# Altium schematic symbol library MyComponents_v2.5.SchLib: 259 symbols (part 2 of 3)
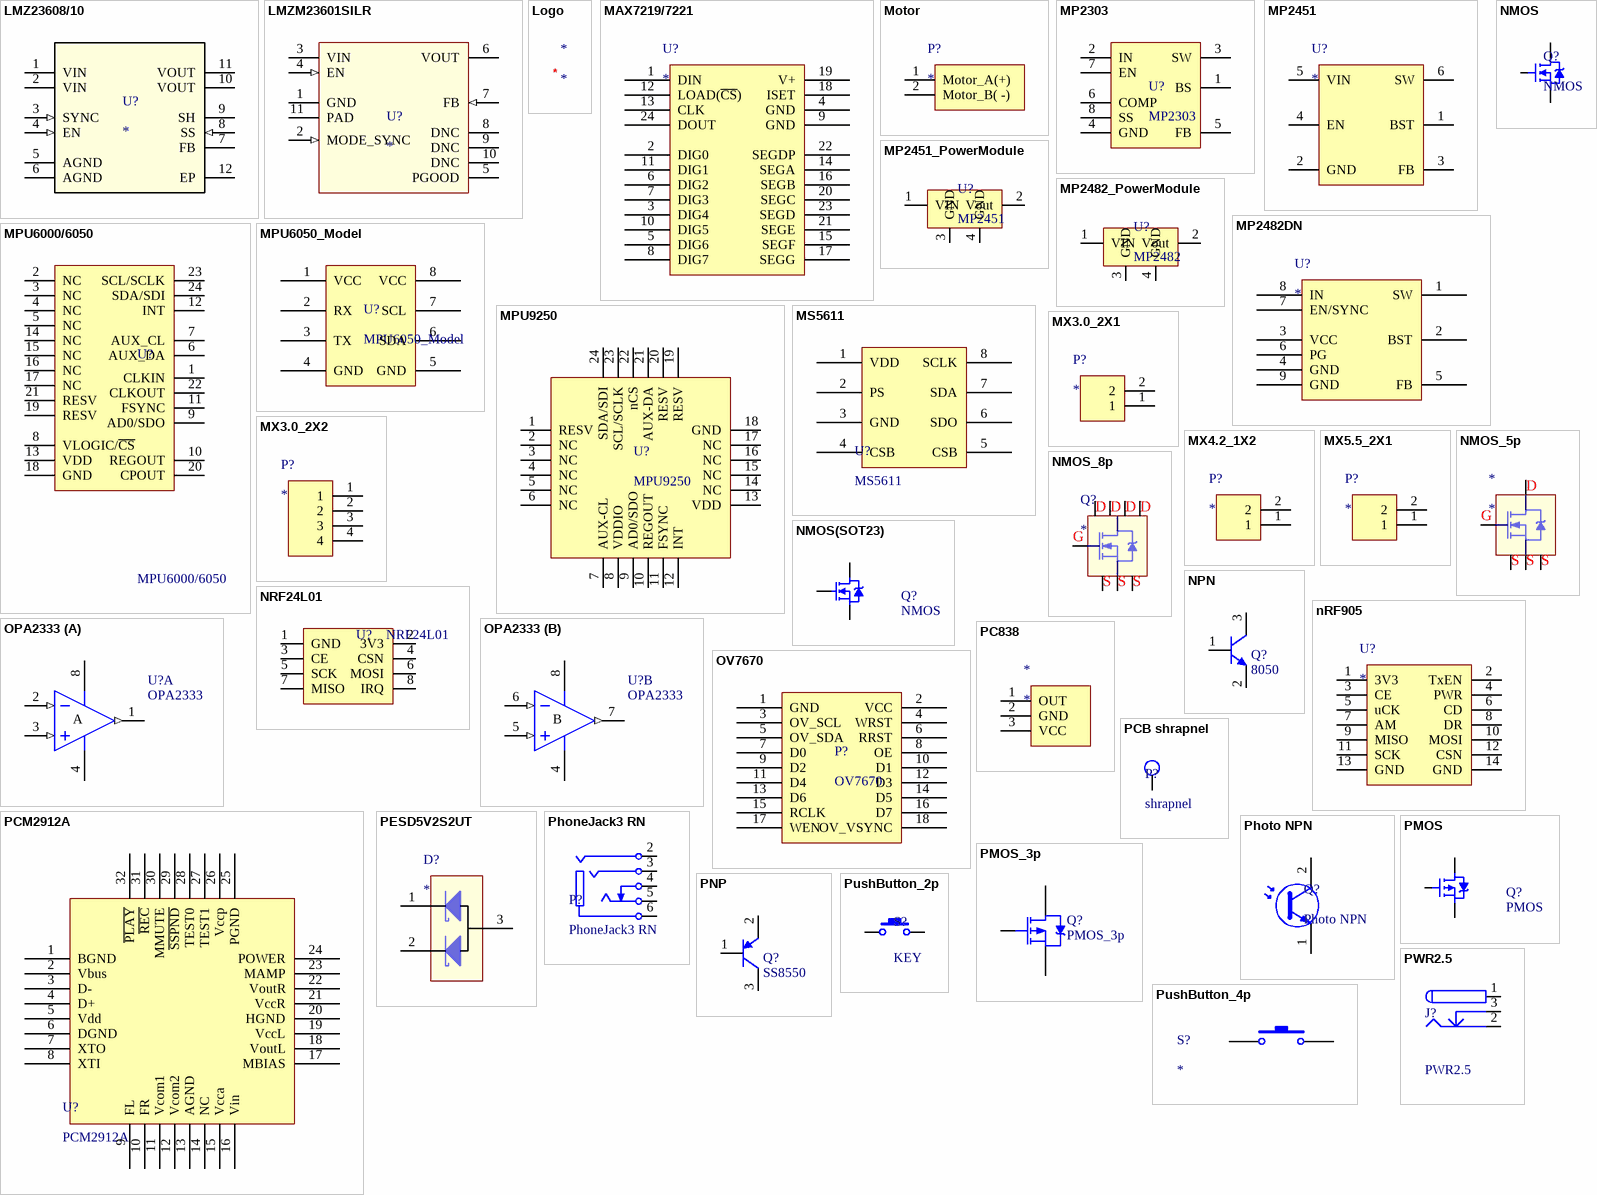
[diagram p14: symbols LMZ23608/10 to PWR2.5]

## PESD5V2S2UT
designator D?
Double ESD protection diodes
footprint SOT-23R
pins: 1, 2, 3

## PhoneJack3 RN
designator P?
footprint PJ-327D
pins: 2, 3, 4, 5, 6

## Photo NPN
designator Q?
footprint Photo NPN (Photo NPN for 测评测速模块)
footprint 5mm_Receiver
pins: 1 E, 2 C

## PMOS
designator Q?
P-Channel Power MOSFET; Note: Pin 4 not drawn and electrically connected to Pin 2.; Published: 8-Jun-2000; LatestRevisionDate: 17-Jul-2002; LatestRevisionNote: Re-released for DXP Platform.; DatasheetVersion: PD-9.390D; PackageVersion: Feb-1997; PackageReference: TO-220AB; Publisher: Altium Limited; PackageDescription: TO, Thru-Hole, Vertical, Heatsink Mounted; 3 In-Line Leads; Pitch 2.54 mm; ComponentLink1Description: Manufacturer Link; ComponentLink1URL: http://www.irf.com/
footprint TO-220AB (Footprint not found)
simulation model IRF9510 (Spice Subcircuit)
footprint SON5X6 (5x6mm MOS)
footprint SON3x3
pins: 1 S, 2 S, 3 S, 4 G, 5 D, 6 D, 7 D, 8 D, 9 D

## PMOS_3p
designator Q?
P-Channel Power MOSFET; Note: Pin 4 not drawn and electrically connected to Pin 2.; Published: 8-Jun-2000; LatestRevisionDate: 17-Jul-2002; LatestRevisionNote: Re-released for DXP Platform.; DatasheetVersion: PD-9.390D; PackageVersion: Feb-1997; PackageReference: TO-220AB; Publisher: Altium Limited; PackageDescription: TO, Thru-Hole, Vertical, Heatsink Mounted; 3 In-Line Leads; Pitch 2.54 mm; ComponentLink1Description: Manufacturer Link; ComponentLink1URL: http://www.irf.com/
footprint TO-220AB (Footprint not found)
simulation model IRF9510 (Spice Subcircuit)
pins: D, G, S

## PNP
designator Q?, comment SS8550
PNP Bipolar Transistor; Published: 8-Jun-2000; LatestRevisionDate: 17-Jul-2002; LatestRevisionNote: Re-released for DXP Platform.; PackageReference: TO-226-AA; Publisher: Altium Limited; PackageDescription: TO, Flat Index; 3 In-Line, Axial Leads; Body Dia. 4.8mm; Leads 0.55 x 0.51 mm (max); Code_JEDEC: TO-226-AA
simulation model NPN
signal-integrity model NPN
footprint SOT-23-3
footprint SOT-323
pins: 1 B, 2 E, 3 C

## PushButton_2p
designator S?, comment KEY
Button; Published: 24-Mar-1999; LatestRevisionDate: 17-Jul-2002; LatestRevisionNote: Re-released for DXP Platform.; PackageReference: SPST-2; Publisher: Altium Limited; PackageDescription: Switch; 2 Leads
footprint SW-3x6mm-SMT (两脚贴片轻触开关3x6mm)
footprint SW 3mmx4mm (小龟按键)
pins: 1, 2

## PushButton_4p
designator S?
footprint SW-4.5x4.5mm-SMT (四脚贴片轻触开关4.5x4.5mm)
footprint SW-6x6mm (四脚按键6x6mm)
pins: 1, 2, 3 hidden, 4 hidden

## PWR2.5
designator J?
Low Voltage Power Supply Connector; Published: 17-Dec-2003; DatasheetDocument: 09-May-2002; Publisher: Altium Limited; ComponentLink1Description: Manufacturer Link; ComponentLink1URL: http://domino.kycon.com/internet/Products.html
signal-integrity model Connector
footprint DC-JACK (DC Power Jack, 5.5mm-2.1mm)
footprint DC2.5-5 (DC Power Jack, 2.5mm, KLD Series, PCB Mount)
pins: 1 (power), 2 (power), 3 (power)

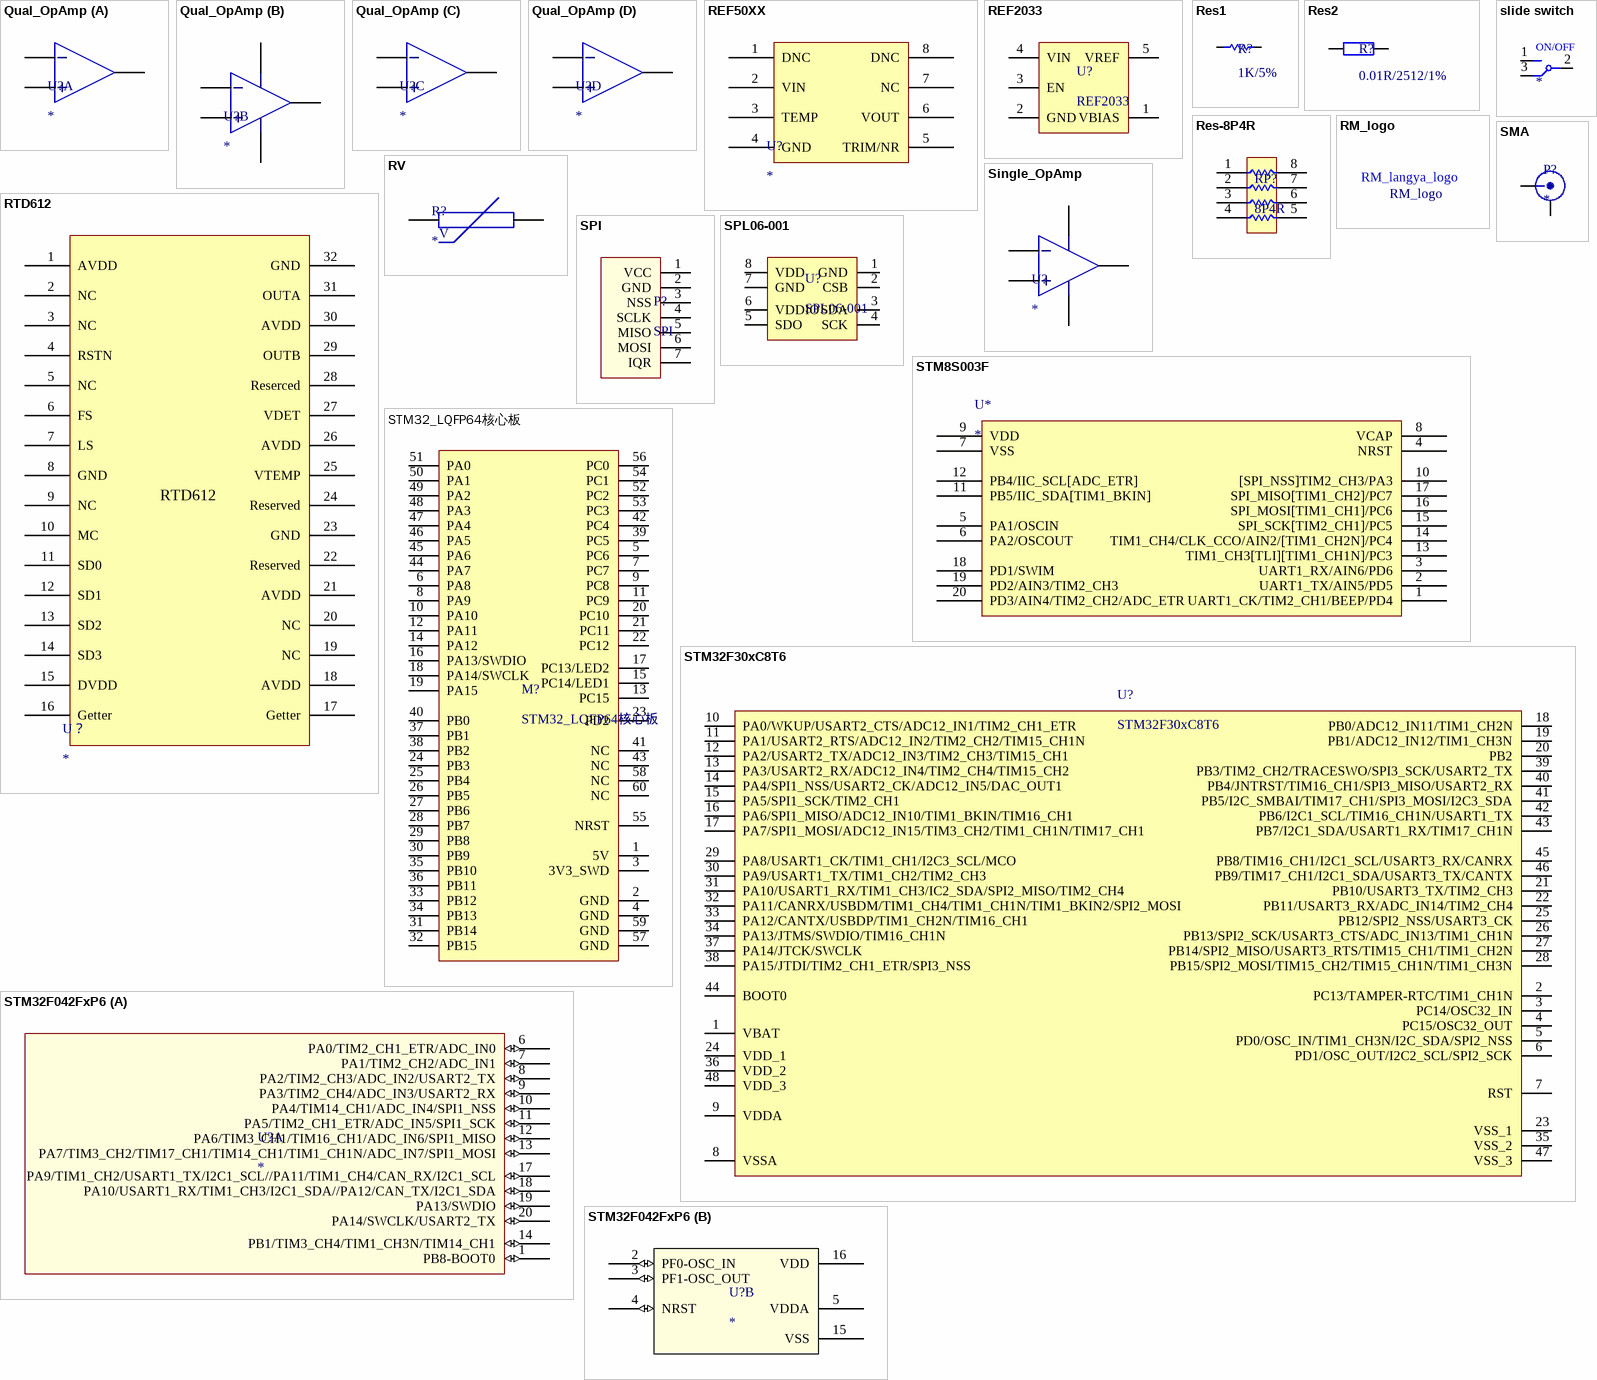
[diagram p7: symbols Qual_OpAmp to STM32F042FxP6]

## Qual_OpAmp
designator U?
footprint D14_NoThermal (SOIC, 14-Leads, Body 8.65x3.90mm, Pitch 1.27mm, IPC Medium Density)
part A pins: 1 OUTA, 2 IN-A, 3 IN+A
part B pins: 4 V+, 5 IN+B, 6 IN-B, 7 OUTB, 11 V-
part C pins: 8 OUTC, 9 IN-C, 10 IN+C
part D pins: 12 IN+D, 13 IN-D, 14 OUTD

## REF50XX
designator U?
footprint D8_NoThermal (SOIC, 8-Leads, Body 4.90x3.90mm, Pitch 1.27mm, IPC Medium Density)
footprint DGK8_NoThermal (TSOP, 8-Leads, Body 3.00x3.00mm, Pitch 0.65mm, IPC Medium Density)
pins: 1 DNC, 2 VIN, 3 TEMP, 4 GND, 5 TRIM/NR, 6 VOUT, 7 NC, 8 DNC

## REF2033
designator U?
Voltage Reference
footprint DIP&SOT-23-5 (DIP; 5Leads; Row Spacing 7.62 mm; Pitch 2.54 mm)
footprint SOT-23-5 L
pins: 1 VBIAS, 2 GND, 3 EN, 4 VIN, 5 VREF

## Res1
designator R?, comment 1K/5%
Resistor; Value: 1K; Published: 8-Jun-2000; LatestRevisionDate: 17-Jul-2002; LatestRevisionNote: Re-released for DXP Platform.; PackageReference: AXIAL-0.3; Publisher: Altium Limited; PackageDescription: Axial Device, Thru-Hole; 2 Leads; 0.3 in Pin Spacing
simulation model RESISTOR (Resistor)
signal-integrity model Res
footprint 0603R
footprint 0402R
footprint 0805
footprint 1206
pins: 1, 2

## Res2
designator R?, comment 0.01R/2512/1%
Resistor; Value: 1K; Published: 8-Jun-2000; LatestRevisionDate: 17-Jul-2002; LatestRevisionNote: Re-released for DXP Platform.; PackageReference: AXIAL-0.4; Publisher: Altium Limited; PackageDescription: Axial Device, Thru-Hole; 2 Leads; 0.4 in Pin Spacing
simulation model RESISTOR (Resistor)
signal-integrity model Res
footprint 2512 (采样电阻)
pins: 1, 2

## Res-8P4R
designator RP?, comment 8P4R
footprint RES-8P4R-0603 (Chip Array, Flat, 8-Leads, Pitch 0.80mm,  Body 3.20x1.60mm,  IPC Medium Density)
footprint RES-8P4R-0402
pins: 1, 2, 3, 4, 5, 6, 7, 8

## RM_logo
designator ?
footprint RM_logo 300mil*350 (300mil*350mil)
footprint RM_logo
footprint Logo_LangYa
footprint RM_logo 560mil*460 (560mil*460mil)
text: RM_langya_logo

## RTD612
designator U？
LWIR imaging sensor
footprint RTD612 (LWIR Imaging Sensor)
pins: 1 AVDD, 2 NC, 3 NC, 4 RSTN, 5 NC, 6 FS, 7 LS, 8 GND, 9 NC, 10 MC, 11 SD0, 12 SD1, 13 SD2, 14 SD3, 15 DVDD, 16 Getter, 17 Getter, 18 AVDD, 19 NC, 20 NC, 21 AVDD, 22 Reserved, 23 GND, 24 Reserved, 25 VTEMP, 26 AVDD, 27 VDET, 28 Reserced, 29 OUTB, 30 AVDD, 31 OUTA, 32 GND

## RV
designator R?
footprint RV_200mil
pins: 1, 2
text: V

## Single_OpAmp
designator U?
footprint D8_NoThermal (SOIC, 8-Leads, Body 4.90x3.90mm, Pitch 1.27mm, IPC Medium Density)
footprint DGK8_NoThermal (TSOP, 8-Leads, Body 3.00x3.00mm, Pitch 0.65mm, IPC Medium Density)
pins: 1 NC hidden, 2 IN-, 3 IN+, 4 V-, 5 BC hidden, 6 OUT, 7 V+, 8 NC hidden

## slide switch
designator S?
footprint Slide Switch
footprint MSK12D19
pins: 1 NX (oc), 2 COM (oc), 3 NC (oc)
text: ON/OFF

## SMA
designator P?
footprint SMB_V-RJ45 (Connector; SMB Straight)
footprint SMA_Connector
pins: 1, 2

## SPI
designator P?
footprint HY2.00mm7x1
footprint A1.25WF-7P
footprint GH1.25-7P-卧贴
pins: 1 VCC, 2 GND, 3 NSS, 4 SCLK, 5 MISO, 6 MOSI, 7 IQR

## SPL06-001
designator U?
footprint LGA8_SPL06 (IST8310)
pins: 1 GND, 2 CSB, 3 SDA, 4 SCK, 5 SDO, 6 VDDIO, 7 GND, 8 VDD

## STM8S003F
designator U*
footprint TSSOP65P640X120-20N(STM8S103F) (TSOP, 20-Leads, Body 6.6x4.5mm (max), Pitch 0.65mm, IPC Medium Density)
pins: 1 UART1_CK/TIM2_CH1/BEEP/PD4 "PD4", 2 UART1_TX/AIN5/PD5 "PD5", 3 UART1_RX/AIN6/PD6, 4 NRST, 5 PA1/OSCIN, 6 PA2/OSCOUT, 7 VSS, 8 VCAP, 9 VDD, 10 [SPI_NSS]TIM2_CH3/PA3, 11 PB5/IIC_SDA[TIM1_BKIN], 12 PB4/IIC_SCL[ADC_ETR], 13 TIM1_CH3[TLI][TIM1_CH1N]/PC3, 14 TIM1_CH4/CLK_CCO/AIN2/[TIM1_CH2N]/PC4, 15 SPI_SCK[TIM2_CH1]/PC5, 16 SPI_MOSI[TIM1_CH1]/PC6, 17 SPI_MISO[TIM1_CH2]/PC7, 18 PD1/SWIM, 19 PD2/AIN3/TIM2_CH3, 20 PD3/AIN4/TIM2_CH2/ADC_ETR

## STM32_LQFP64核心板
designator M?
STM32_LQFP64核心板 / 兼容F105Rx、F405RGT6、F446Rx / 尺寸23mm x 25mm
footprint STM32_LQFP64核心板
pins: 1 5V, 2 GND, 3 3V3_SWD, 4 GND, 5 PC6, 6 PA8, 7 PC7, 8 PA9, 9 PC8, 10 PA10, 11 PC9, 12 PA11, 13 PC15, 14 PA12, 15 PC14/LED1, 16 PA13/SWDIO, 17 PC13/LED2, 18 PA14/SWCLK, 19 PA15, 20 PC10, 21 PC11, 22 PC12, 23 PD2, 24 PB3, 25 PB4, 26 PB5, 27 PB6, 28 PB7, 29 PB8, 30 PB9, 31 PB14, 32 PB15, 33 PB12, 34 PB13, 35 PB10, 36 PB11, 37 PB1, 38 PB2, 39 PC5, 40 PB0, 41 NC, 42 PC4, 43 NC, 44 PA7, 45 PA6, 46 PA5, 47 PA4, 48 PA3, 49 PA2, 50 PA1, 51 PA0, 52 PC2, 53 PC3, 54 PC1, 55 NRST, 56 PC0, 57 GND, 58 NC, 59 GND, 60 NC

## STM32F30xC8T6
designator U?
footprint LQFP_48 (TSQFP, 48-Leads, Body 7.00x7.00mm, Pitch 0.50mm, IPC Medium Density)
pins: 1 VBAT, 2 PC13/TAMPER-RTC/TIM1_CH1N, 3 PC14/OSC32_IN, 4 PC15/OSC32_OUT, 5 PD0/OSC_IN/TIM1_CH3N/I2C_SDA/SPI2_NSS, 6 PD1/OSC_OUT/I2C2_SCL/SPI2_SCK, 7 RST, 8 VSSA, 9 VDDA, 10 PA0/WKUP/USART2_CTS/ADC12_IN1/TIM2_CH1_ETR, 11 PA1/USART2_RTS/ADC12_IN2/TIM2_CH2/TIM15_CH1N, 12 PA2/USART2_TX/ADC12_IN3/TIM2_CH3/TIM15_CH1, 13 PA3/USART2_RX/ADC12_IN4/TIM2_CH4/TIM15_CH2, 14 PA4/SPI1_NSS/USART2_CK/ADC12_IN5/DAC_OUT1, 15 PA5/SPI1_SCK/TIM2_CH1, 16 PA6/SPI1_MISO/ADC12_IN10/TIM1_BKIN/TIM16_CH1, 17 PA7/SPI1_MOSI/ADC12_IN15/TIM3_CH2/TIM1_CH1N/TIM17_CH1, 18 PB0/ADC12_IN11/TIM1_CH2N, 19 PB1/ADC12_IN12/TIM1_CH3N, 20 PB2, 21 PB10/USART3_TX/TIM2_CH3, 22 PB11/USART3_RX/ADC_IN14/TIM2_CH4, 23 VSS_1, 24 VDD_1, 25 PB12/SPI2_NSS/USART3_CK, 26 PB13/SPI2_SCK/USART3_CTS/ADC_IN13/TIM1_CH1N, 27 PB14/SPI2_MISO/USART3_RTS/TIM15_CH1/TIM1_CH2N, 28 PB15/SPI2_MOSI/TIM15_CH2/TIM15_CH1N/TIM1_CH3N, 29 PA8/USART1_CK/TIM1_CH1/I2C3_SCL/MCO, 30 PA9/USART1_TX/TIM1_CH2/TIM2_CH3, 31 PA10/USART1_RX/TIM1_CH3/IC2_SDA/SPI2_MISO/TIM2_CH4, 32 PA11/CANRX/USBDM/TIM1_CH4/TIM1_CH1N/TIM1_BKIN2/SPI2_MOSI, 33 PA12/CANTX/USBDP/TIM1_CH2N/TIM16_CH1, 34 PA13/JTMS/SWDIO/TIM16_CH1N, 35 VSS_2, 36 VDD_2, 37 PA14/JTCK/SWCLK, 38 PA15/JTDI/TIM2_CH1_ETR/SPI3_NSS, 39 PB3/TIM2_CH2/TRACESWO/SPI3_SCK/USART2_TX, 40 PB4/JNTRST/TIM16_CH1/SPI3_MISO/USART2_RX, 41 PB5/I2C_SMBAI/TIM17_CH1/SPI3_MOSI/I2C3_SDA, 42 PB6/I2C1_SCL/TIM16_CH1N/USART1_TX, 43 PB7/I2C1_SDA/USART1_RX/TIM17_CH1N, 44 BOOT0, 45 PB8/TIM16_CH1/I2C1_SCL/USART3_RX/CANRX, 46 PB9/TIM17_CH1/I2C1_SDA/USART3_TX/CANTX, 47 VSS_3, 48 VDD_3

## STM32F042FxP6
designator U?
Imported; Manufacturer_Part_Number: stm32f042gxu; Vendor: STMicroelectronics; Built_By: EMA_UL_Team; C: Copyright (C) 2016 Accelerated Designs. All rights reserved; RefDes: RefDes; Type: Type; Value: Value
footprint TSSOP20
part A pins: 1 PB8-BOOT0 (io), 6 PA0/TIM2_CH1_ETR/ADC_IN0 (io), 7 PA1/TIM2_CH2/ADC_IN1 (io), 8 PA2/TIM2_CH3/ADC_IN2/USART2_TX (io), 9 PA3/TIM2_CH4/ADC_IN3/USART2_RX (io), 10 PA4/TIM14_CH1/ADC_IN4/SPI1_NSS (io), 11 PA5/TIM2_CH1_ETR/ADC_IN5/SPI1_SCK (io), 12 PA6/TIM3_CH1/TIM16_CH1/ADC_IN6/SPI1_MISO (io), 13 PA7/TIM3_CH2/TIM17_CH1/TIM14_CH1/TIM1_CH1N/ADC_IN7/SPI1_MOSI (io), 14 PB1/TIM3_CH4/TIM1_CH3N/TIM14_CH1 (io), 17 PA9/TIM1_CH2/USART1_TX/I2C1_SCL//PA11/TIM1_CH4/CAN_RX/I2C1_SCL (io), 18 PA10/USART1_RX/TIM1_CH3/I2C1_SDA//PA12/CAN_TX/I2C1_SDA (io), 19 PA13/SWDIO (io), 20 PA14/SWCLK/USART2_TX (io)
part B pins: 2 PF0-OSC_IN (io), 3 PF1-OSC_OUT (io), 4 NRST (io), 5 VDDA (power), 15 VSS (power), 16 VDD (power)

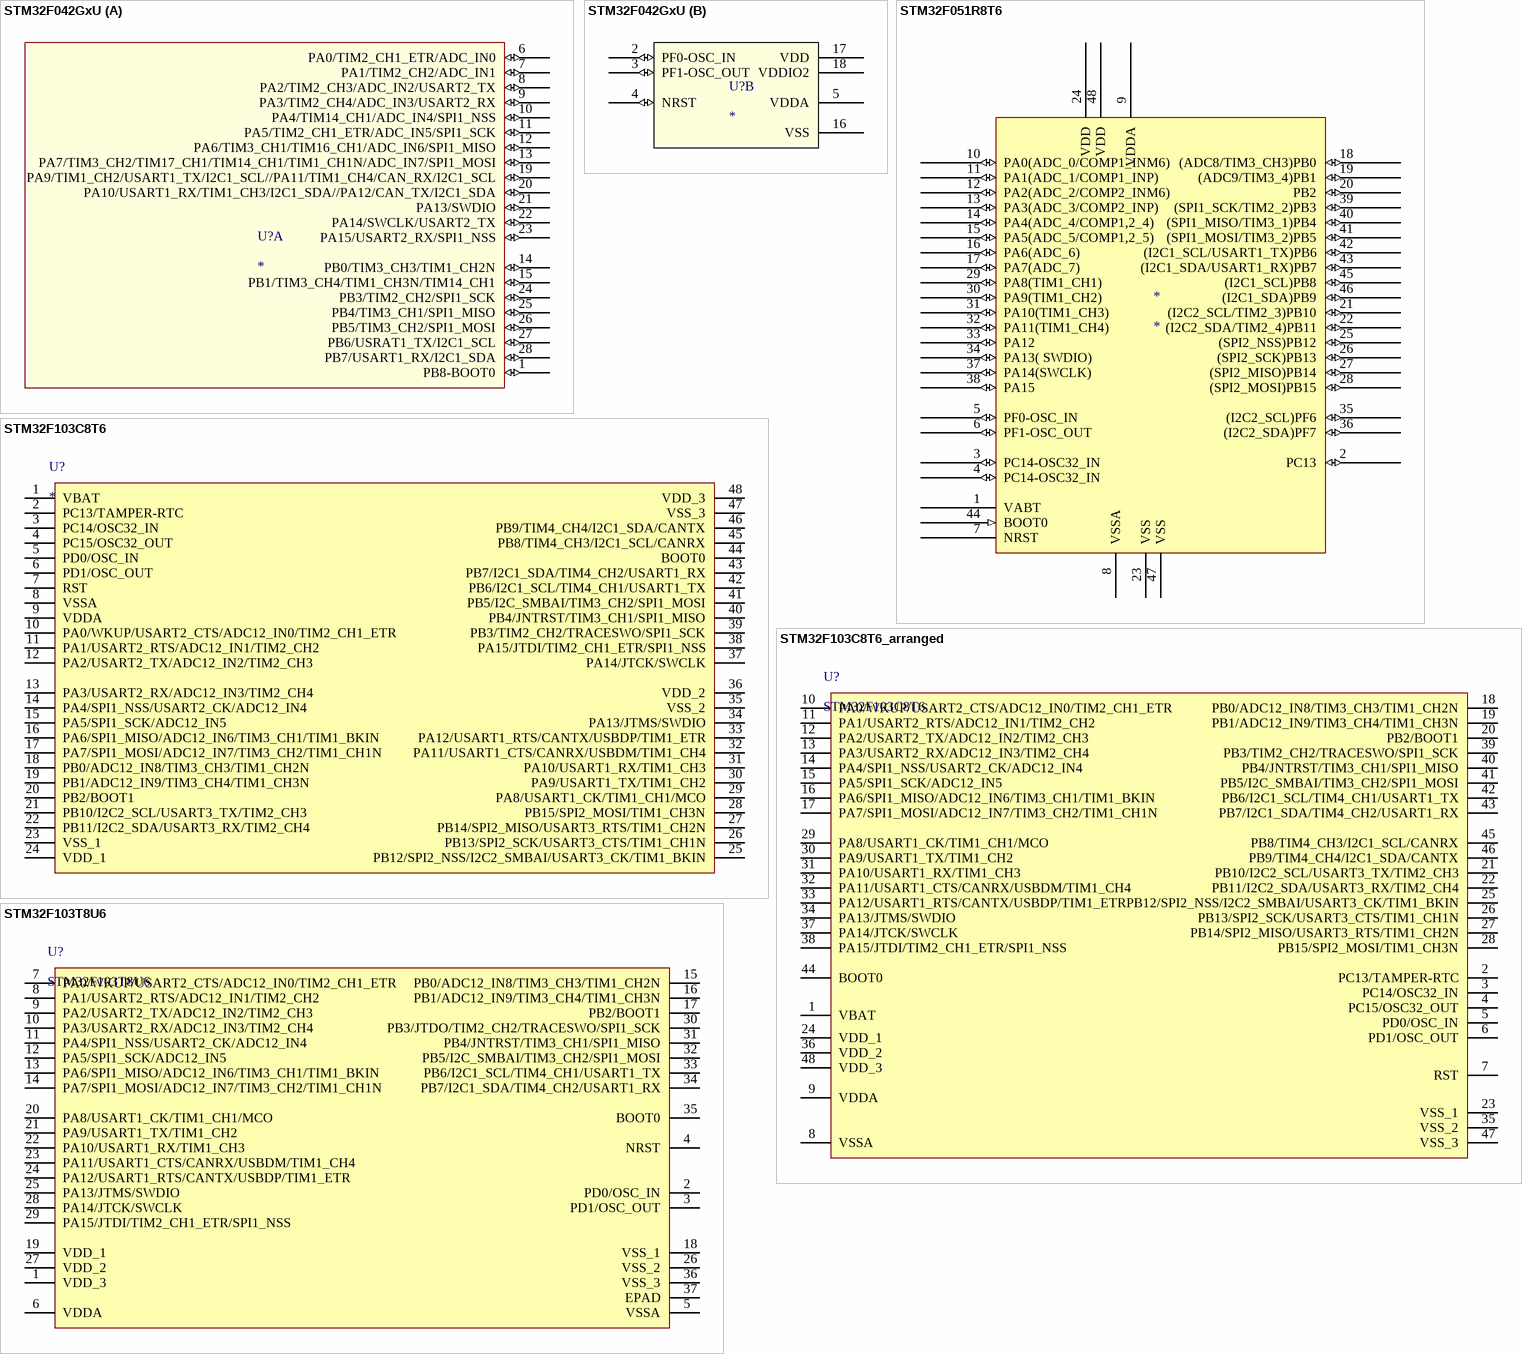
[diagram p8: symbols STM32F042GxU to STM32F103T8U6]

## STM32F042GxU
designator U?
Imported; Manufacturer_Part_Number: stm32f042gxu; Vendor: STMicroelectronics; Built_By: EMA_UL_Team; C: Copyright (C) 2016 Accelerated Designs. All rights reserved; RefDes: RefDes; Type: Type; Value: Value
footprint UFQFPN28-4x4mm-M
part A pins: 1 PB8-BOOT0 (io), 6 PA0/TIM2_CH1_ETR/ADC_IN0 (io), 7 PA1/TIM2_CH2/ADC_IN1 (io), 8 PA2/TIM2_CH3/ADC_IN2/USART2_TX (io), 9 PA3/TIM2_CH4/ADC_IN3/USART2_RX (io), 10 PA4/TIM14_CH1/ADC_IN4/SPI1_NSS (io), 11 PA5/TIM2_CH1_ETR/ADC_IN5/SPI1_SCK (io), 12 PA6/TIM3_CH1/TIM16_CH1/ADC_IN6/SPI1_MISO (io), 13 PA7/TIM3_CH2/TIM17_CH1/TIM14_CH1/TIM1_CH1N/ADC_IN7/SPI1_MOSI (io), 14 PB0/TIM3_CH3/TIM1_CH2N (io), 15 PB1/TIM3_CH4/TIM1_CH3N/TIM14_CH1 (io), 19 PA9/TIM1_CH2/USART1_TX/I2C1_SCL//PA11/TIM1_CH4/CAN_RX/I2C1_SCL (io), 20 PA10/USART1_RX/TIM1_CH3/I2C1_SDA//PA12/CAN_TX/I2C1_SDA (io), 21 PA13/SWDIO (io), 22 PA14/SWCLK/USART2_TX (io), 23 PA15/USART2_RX/SPI1_NSS (io), 24 PB3/TIM2_CH2/SPI1_SCK (io), 25 PB4/TIM3_CH1/SPI1_MISO (io), 26 PB5/TIM3_CH2/SPI1_MOSI (io), 27 PB6/USRAT1_TX/I2C1_SCL (io), 28 PB7/USART1_RX/I2C1_SDA (io)
part B pins: 2 PF0-OSC_IN (io), 3 PF1-OSC_OUT (io), 4 NRST (io), 5 VDDA (power), 16 VSS (power), 17 VDD (power), 18 VDDIO2 (power)

## STM32F051R8T6
designator *
pins: 1 VABT, 2 PC13 (io), 3 PC14-OSC32_IN (io), 4 PC14-OSC32_IN (io), 5 PF0-OSC_IN (io), 6 PF1-OSC_OUT (io), 7 NRST, 8 VSSA, 9 VDDA (power), 10 PA0(ADC_0/COMP1_INM6) (io), 11 PA1(ADC_1/COMP1_INP) (io), 12 PA2(ADC_2/COMP2_INM6) (io), 13 PA3(ADC_3/COMP2_INP) (io), 14 PA4(ADC_4/COMP1,2_4) (io), 15 PA5(ADC_5/COMP1,2_5) (io), 16 PA6(ADC_6) (io), 17 PA7(ADC_7) (io), 18 (ADC8/TIM3_CH3)PB0 (io), 19 (ADC9/TIM3_4)PB1 (io), 20 PB2 (io), 21 (I2C2_SCL/TIM2_3)PB10 (io), 22 (I2C2_SDA/TIM2_4)PB11 (io), 23 VSS (power), 24 VDD (power), 25 (SPI2_NSS)PB12 (io), 26 (SPI2_SCK)PB13 (io), 27 (SPI2_MISO)PB14 (io), 28 (SPI2_MOSI)PB15 (io), 29 PA8(TIM1_CH1) (io), 30 PA9(TIM1_CH2) (io), 31 PA10(TIM1_CH3) (io), 32 PA11(TIM1_CH4) (io), 33 PA12 (io), 34 PA13( SWDIO) (io), 35 (I2C2_SCL)PF6 (io), 36 (I2C2_SDA)PF7 (io), 37 PA14(SWCLK) (io), 38 PA15 (io), 39 (SPI1_SCK/TIM2_2)PB3 (io), 40 (SPI1_MISO/TIM3_1)PB4 (io), 41 (SPI1_MOSI/TIM3_2)PB5 (io), 42 (I2C1_SCL/USART1_TX)PB6 (io), 43 (I2C1_SDA/USART1_RX)PB7 (io), 44 BOOT0 (in), 45 (I2C1_SCL)PB8 (io), 46 (I2C1_SDA)PB9 (io), 47 VSS (power), 48 VDD (power)

## STM32F103C8T6
designator U?
footprint LQFP_48 (TSQFP, 48-Leads, Body 7.00x7.00mm, Pitch 0.50mm, IPC Medium Density)
pins: 1 VBAT, 2 PC13/TAMPER-RTC, 3 PC14/OSC32_IN, 4 PC15/OSC32_OUT, 5 PD0/OSC_IN, 6 PD1/OSC_OUT, 7 RST, 8 VSSA, 9 VDDA, 10 PA0/WKUP/USART2_CTS/ADC12_IN0/TIM2_CH1_ETR, 11 PA1/USART2_RTS/ADC12_IN1/TIM2_CH2, 12 PA2/USART2_TX/ADC12_IN2/TIM2_CH3, 13 PA3/USART2_RX/ADC12_IN3/TIM2_CH4, 14 PA4/SPI1_NSS/USART2_CK/ADC12_IN4, 15 PA5/SPI1_SCK/ADC12_IN5, 16 PA6/SPI1_MISO/ADC12_IN6/TIM3_CH1/TIM1_BKIN, 17 PA7/SPI1_MOSI/ADC12_IN7/TIM3_CH2/TIM1_CH1N, 18 PB0/ADC12_IN8/TIM3_CH3/TIM1_CH2N, 19 PB1/ADC12_IN9/TIM3_CH4/TIM1_CH3N, 20 PB2/BOOT1, 21 PB10/I2C2_SCL/USART3_TX/TIM2_CH3, 22 PB11/I2C2_SDA/USART3_RX/TIM2_CH4, 23 VSS_1, 24 VDD_1, 25 PB12/SPI2_NSS/I2C2_SMBAI/USART3_CK/TIM1_BKIN, 26 PB13/SPI2_SCK/USART3_CTS/TIM1_CH1N, 27 PB14/SPI2_MISO/USART3_RTS/TIM1_CH2N, 28 PB15/SPI2_MOSI/TIM1_CH3N, 29 PA8/USART1_CK/TIM1_CH1/MCO, 30 PA9/USART1_TX/TIM1_CH2, 31 PA10/USART1_RX/TIM1_CH3, 32 PA11/USART1_CTS/CANRX/USBDM/TIM1_CH4, 33 PA12/USART1_RTS/CANTX/USBDP/TIM1_ETR, 34 PA13/JTMS/SWDIO, 35 VSS_2, 36 VDD_2, 37 PA14/JTCK/SWCLK, 38 PA15/JTDI/TIM2_CH1_ETR/SPI1_NSS, 39 PB3/TIM2_CH2/TRACESWO/SPI1_SCK, 40 PB4/JNTRST/TIM3_CH1/SPI1_MISO, 41 PB5/I2C_SMBAI/TIM3_CH2/SPI1_MOSI, 42 PB6/I2C1_SCL/TIM4_CH1/USART1_TX, 43 PB7/I2C1_SDA/TIM4_CH2/USART1_RX, 44 BOOT0, 45 PB8/TIM4_CH3/I2C1_SCL/CANRX, 46 PB9/TIM4_CH4/I2C1_SDA/CANTX, 47 VSS_3, 48 VDD_3

## STM32F103C8T6_arranged
designator U?, comment STM32F103C8T6
footprint LQFP_48 (TSQFP, 48-Leads, Body 7.00x7.00mm, Pitch 0.50mm, IPC Medium Density)
pins: 1 VBAT, 2 PC13/TAMPER-RTC, 3 PC14/OSC32_IN, 4 PC15/OSC32_OUT, 5 PD0/OSC_IN, 6 PD1/OSC_OUT, 7 RST, 8 VSSA, 9 VDDA, 10 PA0/WKUP/USART2_CTS/ADC12_IN0/TIM2_CH1_ETR, 11 PA1/USART2_RTS/ADC12_IN1/TIM2_CH2, 12 PA2/USART2_TX/ADC12_IN2/TIM2_CH3, 13 PA3/USART2_RX/ADC12_IN3/TIM2_CH4, 14 PA4/SPI1_NSS/USART2_CK/ADC12_IN4, 15 PA5/SPI1_SCK/ADC12_IN5, 16 PA6/SPI1_MISO/ADC12_IN6/TIM3_CH1/TIM1_BKIN, 17 PA7/SPI1_MOSI/ADC12_IN7/TIM3_CH2/TIM1_CH1N, 18 PB0/ADC12_IN8/TIM3_CH3/TIM1_CH2N, 19 PB1/ADC12_IN9/TIM3_CH4/TIM1_CH3N, 20 PB2/BOOT1, 21 PB10/I2C2_SCL/USART3_TX/TIM2_CH3, 22 PB11/I2C2_SDA/USART3_RX/TIM2_CH4, 23 VSS_1, 24 VDD_1, 25 PB12/SPI2_NSS/I2C2_SMBAI/USART3_CK/TIM1_BKIN, 26 PB13/SPI2_SCK/USART3_CTS/TIM1_CH1N, 27 PB14/SPI2_MISO/USART3_RTS/TIM1_CH2N, 28 PB15/SPI2_MOSI/TIM1_CH3N, 29 PA8/USART1_CK/TIM1_CH1/MCO, 30 PA9/USART1_TX/TIM1_CH2, 31 PA10/USART1_RX/TIM1_CH3, 32 PA11/USART1_CTS/CANRX/USBDM/TIM1_CH4, 33 PA12/USART1_RTS/CANTX/USBDP/TIM1_ETR, 34 PA13/JTMS/SWDIO, 35 VSS_2, 36 VDD_2, 37 PA14/JTCK/SWCLK, 38 PA15/JTDI/TIM2_CH1_ETR/SPI1_NSS, 39 PB3/TIM2_CH2/TRACESWO/SPI1_SCK, 40 PB4/JNTRST/TIM3_CH1/SPI1_MISO, 41 PB5/I2C_SMBAI/TIM3_CH2/SPI1_MOSI, 42 PB6/I2C1_SCL/TIM4_CH1/USART1_TX, 43 PB7/I2C1_SDA/TIM4_CH2/USART1_RX, 44 BOOT0, 45 PB8/TIM4_CH3/I2C1_SCL/CANRX, 46 PB9/TIM4_CH4/I2C1_SDA/CANTX, 47 VSS_3, 48 VDD_3

## STM32F103T8U6
designator U?
footprint LQFP_48 (TSQFP, 48-Leads, Body 7.00x7.00mm, Pitch 0.50mm, IPC Medium Density)
footprint VFQFPN-36-M
pins: 1 VDD_3, 2 PD0/OSC_IN, 3 PD1/OSC_OUT, 4 NRST, 5 VSSA, 6 VDDA, 7 PA0/WKUP/USART2_CTS/ADC12_IN0/TIM2_CH1_ETR, 8 PA1/USART2_RTS/ADC12_IN1/TIM2_CH2, 9 PA2/USART2_TX/ADC12_IN2/TIM2_CH3, 10 PA3/USART2_RX/ADC12_IN3/TIM2_CH4, 11 PA4/SPI1_NSS/USART2_CK/ADC12_IN4, 12 PA5/SPI1_SCK/ADC12_IN5, 13 PA6/SPI1_MISO/ADC12_IN6/TIM3_CH1/TIM1_BKIN, 14 PA7/SPI1_MOSI/ADC12_IN7/TIM3_CH2/TIM1_CH1N, 15 PB0/ADC12_IN8/TIM3_CH3/TIM1_CH2N, 16 PB1/ADC12_IN9/TIM3_CH4/TIM1_CH3N, 17 PB2/BOOT1, 18 VSS_1, 19 VDD_1, 20 PA8/USART1_CK/TIM1_CH1/MCO, 21 PA9/USART1_TX/TIM1_CH2, 22 PA10/USART1_RX/TIM1_CH3, 23 PA11/USART1_CTS/CANRX/USBDM/TIM1_CH4, 24 PA12/USART1_RTS/CANTX/USBDP/TIM1_ETR, 25 PA13/JTMS/SWDIO, 26 VSS_2, 27 VDD_2, 28 PA14/JTCK/SWCLK, 29 PA15/JTDI/TIM2_CH1_ETR/SPI1_NSS, 30 PB3/JTDO/TIM2_CH2/TRACESWO/SPI1_SCK, 31 PB4/JNTRST/TIM3_CH1/SPI1_MISO, 32 PB5/I2C_SMBAI/TIM3_CH2/SPI1_MOSI, 33 PB6/I2C1_SCL/TIM4_CH1/USART1_TX, 34 PB7/I2C1_SDA/TIM4_CH2/USART1_RX, 35 BOOT0, 36 VSS_3, 37 EPAD

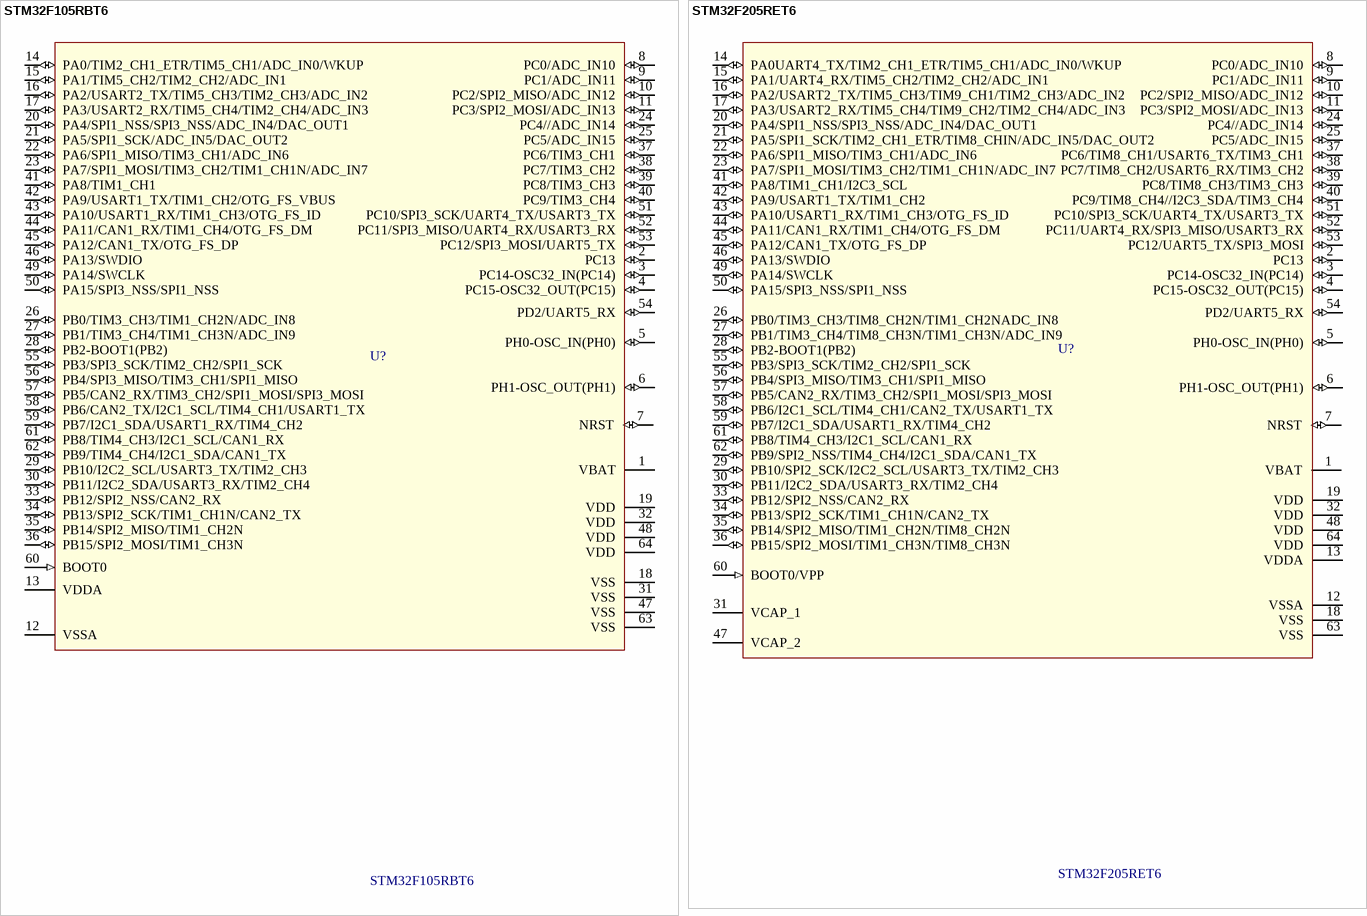
[diagram p9: symbols STM32F105RBT6 to STM32F205RET6]

## STM32F105RBT6
designator U?
ARM Cortex-M4 32b MCU+FPU, 210DMIP, 1024 kB Flash, 192+4 kB RAM, 51 I/Os, 64-pin LQFP, -40 to +85癈, Tray; Internal RAM: 192kB; Operating Frequency (Processor Speed): 168MHz; A/D Converter: 16x12-bit; D/A Converter: 2x12-bit; 16-bit Timers (IC/OC/PWM): 12x16-bit(24/24/30); 32-bit Timer (IC/OC/PWM): 2x32-bit (8/8/8); Other Timer Functions: 2xWDG, RTC, 24-bit down counter; Serial Interface: 3xSPI/2xI2S/2xI2C/3xUSART(IrDa, ISO7816)/3xUART/1xUSB OTG FS/HS, 2xCAN/ SDIO; DatasheetVersion: rev2, Jan-2012; PackageVersion: 2012; PackageReference: TQFP64; PackageDescription: 64-Pin Low Profile Quad Flat Package, 10x10 mm Body, 0.5 mm Pitch; ComponentLink1Description: Manufacturer URL; ComponentLink1URL: http://www.st.com/; ComponentLink2Description: STM32F405/7 Datasheet; ComponentLink2URL: http://www.st.com/internet/com/TECHNICAL_RESOURCES/TECHNICAL_LITERATURE/DATASHEET/DM00037051.pdf; ComponentLink3Description: STM32F4 Web Page; ComponentLink3URL: http://www.st.com/internet/mcu/subclass/1521.jsp
footprint LQFP_64
pins: 1 VBAT (power), 2 PC13 (io), 3 PC14-OSC32_IN(PC14) (io), 4 PC15-OSC32_OUT(PC15) (io), 5 PH0-OSC_IN(PH0) (io), 6 PH1-OSC_OUT(PH1) (io), 7 NRST (io), 8 PC0/ADC_IN10 (io), 9 PC1/ADC_IN11 (io), 10 PC2/SPI2_MISO/ADC_IN12 (io), 11 PC3/SPI2_MOSI/ADC_IN13 (io), 12 VSSA (power), 13 VDDA (power), 14 PA0/TIM2_CH1_ETR/TIM5_CH1/ADC_IN0/WKUP (io), 15 PA1/TIM5_CH2/TIM2_CH2/ADC_IN1 (io), 16 PA2/USART2_TX/TIM5_CH3/TIM2_CH3/ADC_IN2 (io), 17 PA3/USART2_RX/TIM5_CH4/TIM2_CH4/ADC_IN3 (io), 18 VSS (power), 19 VDD (power), 20 PA4/SPI1_NSS/SPI3_NSS/ADC_IN4/DAC_OUT1 (io), 21 PA5/SPI1_SCK/ADC_IN5/DAC_OUT2 (io), 22 PA6/SPI1_MISO/TIM3_CH1/ADC_IN6 (io), 23 PA7/SPI1_MOSI/TIM3_CH2/TIM1_CH1N/ADC_IN7 (io), 24 PC4//ADC_IN14 (io), 25 PC5/ADC_IN15 (io), 26 PB0/TIM3_CH3/TIM1_CH2N/ADC_IN8 (io), 27 PB1/TIM3_CH4/TIM1_CH3N/ADC_IN9 (io), 28 PB2-BOOT1(PB2) (io), 29 PB10/I2C2_SCL/USART3_TX/TIM2_CH3 (io), 30 PB11/I2C2_SDA/USART3_RX/TIM2_CH4 (io), 31 VSS (power), 32 VDD (power), 33 PB12/SPI2_NSS/CAN2_RX (io), 34 PB13/SPI2_SCK/TIM1_CH1N/CAN2_TX (io), 35 PB14/SPI2_MISO/TIM1_CH2N (io), 36 PB15/SPI2_MOSI/TIM1_CH3N (io), 37 PC6/TIM3_CH1 (io), 38 PC7/TIM3_CH2 (io), 39 PC8/TIM3_CH3 (io), 40 PC9/TIM3_CH4 (io), 41 PA8/TIM1_CH1 (io), 42 PA9/USART1_TX/TIM1_CH2/OTG_FS_VBUS (io), 43 PA10/USART1_RX/TIM1_CH3/OTG_FS_ID (io), 44 PA11/CAN1_RX/TIM1_CH4/OTG_FS_DM (io), 45 PA12/CAN1_TX/OTG_FS_DP (io), 46 PA13/SWDIO (io), 47 VSS (power), 48 VDD (power), 49 PA14/SWCLK (io), 50 PA15/SPI3_NSS/SPI1_NSS (io), 51 PC10/SPI3_SCK/UART4_TX/USART3_TX (io), 52 PC11/SPI3_MISO/UART4_RX/USART3_RX (io), 53 PC12/SPI3_MOSI/UART5_TX (io), 54 PD2/UART5_RX (io), 55 PB3/SPI3_SCK/TIM2_CH2/SPI1_SCK (io), 56 PB4/SPI3_MISO/TIM3_CH1/SPI1_MISO (io), 57 PB5/CAN2_RX/TIM3_CH2/SPI1_MOSI/SPI3_MOSI (io), 58 PB6/CAN2_TX/I2C1_SCL/TIM4_CH1/USART1_TX (io), 59 PB7/I2C1_SDA/USART1_RX/TIM4_CH2 (io), 60 BOOT0 (in), 61 PB8/TIM4_CH3/I2C1_SCL/CAN1_RX (io), 62 PB9/TIM4_CH4/I2C1_SDA/CAN1_TX (io), 63 VSS (power), 64 VDD (power)

## STM32F205RET6
designator U?
ARM Cortex-M4 32b MCU+FPU, 210DMIP, 1024 kB Flash, 192+4 kB RAM, 51 I/Os, 64-pin LQFP, -40 to +85癈, Tray; Internal RAM: 192kB; Operating Frequency (Processor Speed): 168MHz; A/D Converter: 16x12-bit; D/A Converter: 2x12-bit; 16-bit Timers (IC/OC/PWM): 12x16-bit(24/24/30); 32-bit Timer (IC/OC/PWM): 2x32-bit (8/8/8); Other Timer Functions: 2xWDG, RTC, 24-bit down counter; Serial Interface: 3xSPI/2xI2S/2xI2C/3xUSART(IrDa, ISO7816)/3xUART/1xUSB OTG FS/HS, 2xCAN/ SDIO; DatasheetVersion: rev2, Jan-2012; PackageVersion: 2012; PackageReference: TQFP64; PackageDescription: 64-Pin Low Profile Quad Flat Package, 10x10 mm Body, 0.5 mm Pitch; ComponentLink1Description: Manufacturer URL; ComponentLink1URL: http://www.st.com/; ComponentLink2Description: STM32F405/7 Datasheet; ComponentLink2URL: http://www.st.com/internet/com/TECHNICAL_RESOURCES/TECHNICAL_LITERATURE/DATASHEET/DM00037051.pdf; ComponentLink3Description: STM32F4 Web Page; ComponentLink3URL: http://www.st.com/internet/mcu/subclass/1521.jsp
footprint LQFP_64
pins: 1 VBAT (power), 2 PC13 (io), 3 PC14-OSC32_IN(PC14) (io), 4 PC15-OSC32_OUT(PC15) (io), 5 PH0-OSC_IN(PH0) (io), 6 PH1-OSC_OUT(PH1) (io), 7 NRST (io), 8 PC0/ADC_IN10 (io), 9 PC1/ADC_IN11 (io), 10 PC2/SPI2_MISO/ADC_IN12 (io), 11 PC3/SPI2_MOSI/ADC_IN13 (io), 12 VSSA (power), 13 VDDA (power), 14 PA0UART4_TX/TIM2_CH1_ETR/TIM5_CH1/ADC_IN0/WKUP (io), 15 PA1/UART4_RX/TIM5_CH2/TIM2_CH2/ADC_IN1 (io), 16 PA2/USART2_TX/TIM5_CH3/TIM9_CH1/TIM2_CH3/ADC_IN2 (io), 17 PA3/USART2_RX/TIM5_CH4/TIM9_CH2/TIM2_CH4/ADC_IN3 (io), 18 VSS (power), 19 VDD (power), 20 PA4/SPI1_NSS/SPI3_NSS/ADC_IN4/DAC_OUT1 (io), 21 PA5/SPI1_SCK/TIM2_CH1_ETR/TIM8_CHIN/ADC_IN5/DAC_OUT2 (io), 22 PA6/SPI1_MISO/TIM3_CH1/ADC_IN6 (io), 23 PA7/SPI1_MOSI/TIM3_CH2/TIM1_CH1N/ADC_IN7 (io), 24 PC4//ADC_IN14 (io), 25 PC5/ADC_IN15 (io), 26 PB0/TIM3_CH3/TIM8_CH2N/TIM1_CH2NADC_IN8 (io), 27 PB1/TIM3_CH4/TIM8_CH3N/TIM1_CH3N/ADC_IN9 (io), 28 PB2-BOOT1(PB2) (io), 29 PB10/SPI2_SCK/I2C2_SCL/USART3_TX/TIM2_CH3 (io), 30 PB11/I2C2_SDA/USART3_RX/TIM2_CH4 (io), 31 VCAP_1 (power), 32 VDD (power), 33 PB12/SPI2_NSS/CAN2_RX (io), 34 PB13/SPI2_SCK/TIM1_CH1N/CAN2_TX (io), 35 PB14/SPI2_MISO/TIM1_CH2N/TIM8_CH2N (io), 36 PB15/SPI2_MOSI/TIM1_CH3N/TIM8_CH3N (io), 37 PC6/TIM8_CH1/USART6_TX/TIM3_CH1 (io), 38 PC7/TIM8_CH2/USART6_RX/TIM3_CH2 (io), 39 PC8/TIM8_CH3/TIM3_CH3 (io), 40 PC9/TIM8_CH4//I2C3_SDA/TIM3_CH4 (io), 41 PA8/TIM1_CH1/I2C3_SCL (io), 42 PA9/USART1_TX/TIM1_CH2 (io), 43 PA10/USART1_RX/TIM1_CH3/OTG_FS_ID (io), 44 PA11/CAN1_RX/TIM1_CH4/OTG_FS_DM (io), 45 PA12/CAN1_TX/OTG_FS_DP (io), 46 PA13/SWDIO (io), 47 VCAP_2 (power), 48 VDD (power), 49 PA14/SWCLK (io), 50 PA15/SPI3_NSS/SPI1_NSS (io), 51 PC10/SPI3_SCK/UART4_TX/USART3_TX (io), 52 PC11/UART4_RX/SPI3_MISO/USART3_RX (io), 53 PC12/UART5_TX/SPI3_MOSI (io), 54 PD2/UART5_RX (io), 55 PB3/SPI3_SCK/TIM2_CH2/SPI1_SCK (io), 56 PB4/SPI3_MISO/TIM3_CH1/SPI1_MISO (io), 57 PB5/CAN2_RX/TIM3_CH2/SPI1_MOSI/SPI3_MOSI (io), 58 PB6/I2C1_SCL/TIM4_CH1/CAN2_TX/USART1_TX (io), 59 PB7/I2C1_SDA/USART1_RX/TIM4_CH2 (io), 60 BOOT0/VPP (in), 61 PB8/TIM4_CH3/I2C1_SCL/CAN1_RX (io), 62 PB9/SPI2_NSS/TIM4_CH4/I2C1_SDA/CAN1_TX (io), 63 VSS (power), 64 VDD (power)

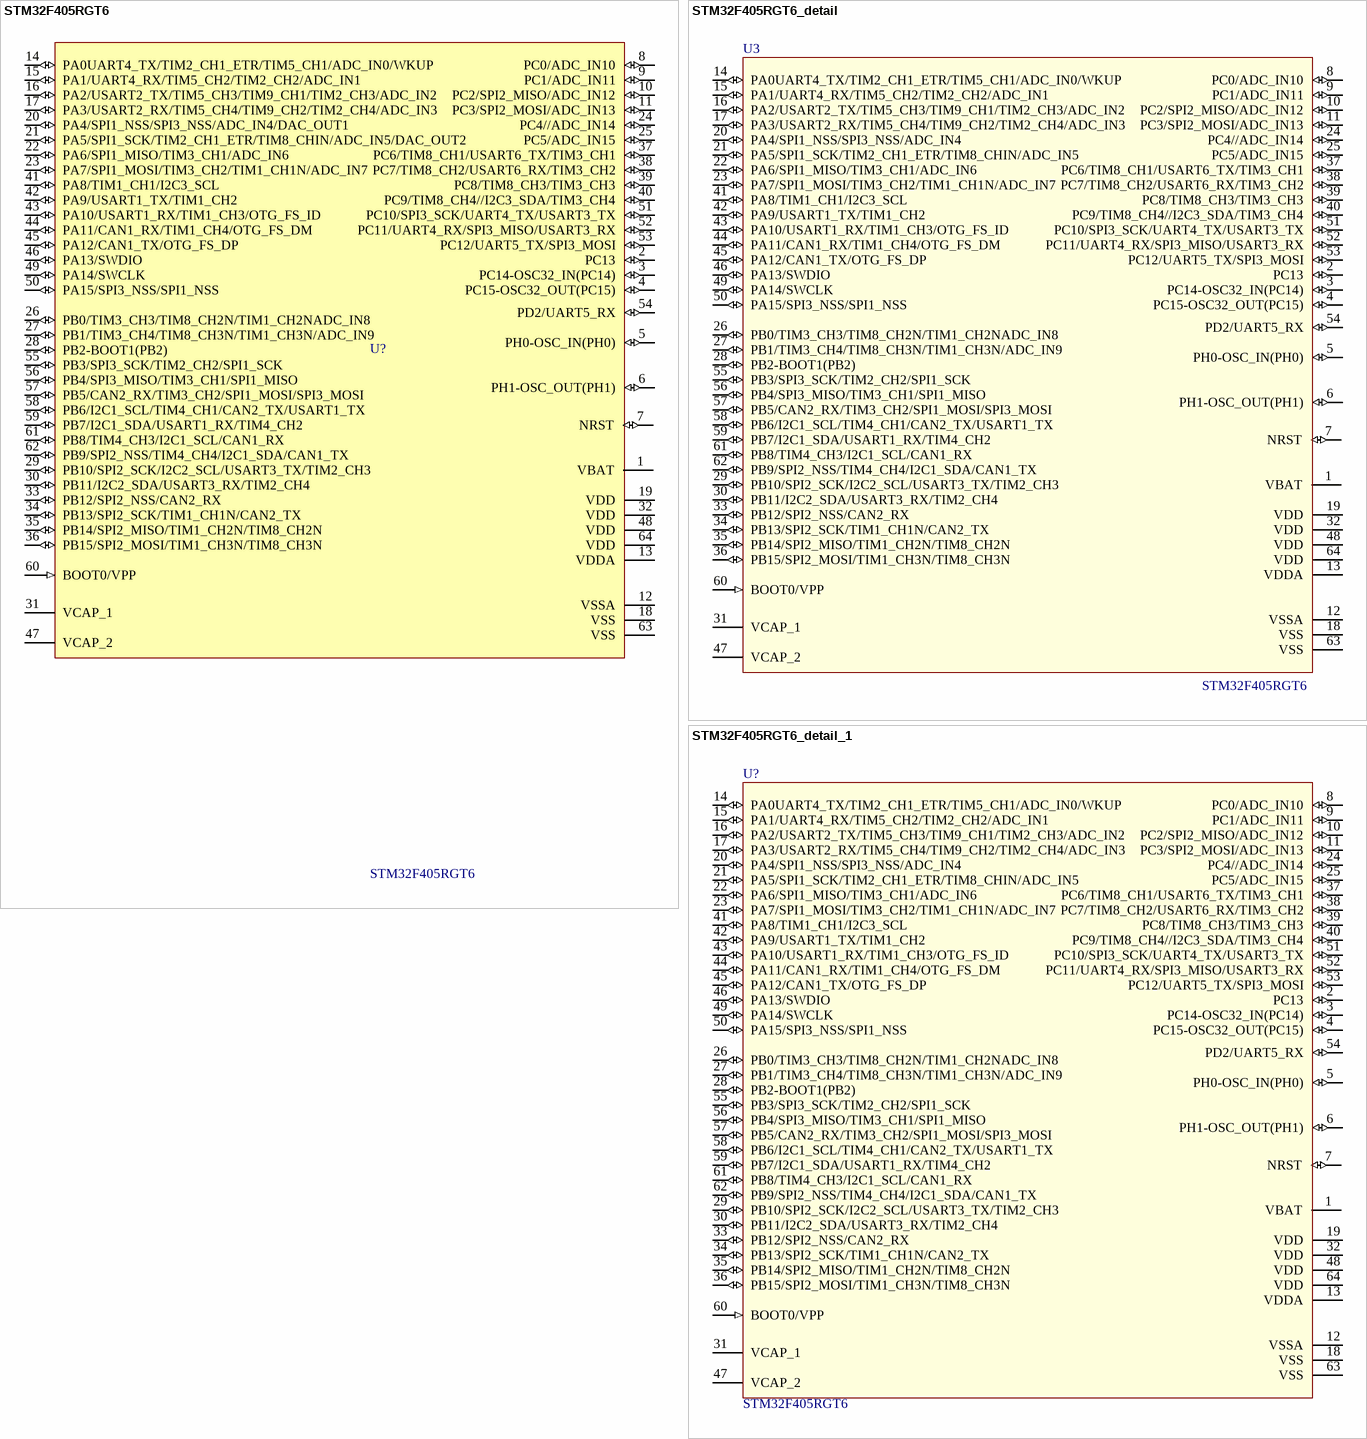
[diagram p10: symbols STM32F405RGT6 to STM32F405RGT6_detail_1]

## STM32F405RGT6
designator U?
ARM Cortex-M4 32b MCU+FPU, 210DMIP, 1024 kB Flash, 192+4 kB RAM, 51 I/Os, 64-pin LQFP, -40 to +85癈, Tray; Internal RAM: 192kB; Operating Frequency (Processor Speed): 168MHz; A/D Converter: 16x12-bit; D/A Converter: 2x12-bit; 16-bit Timers (IC/OC/PWM): 12x16-bit(24/24/30); 32-bit Timer (IC/OC/PWM): 2x32-bit (8/8/8); Other Timer Functions: 2xWDG, RTC, 24-bit down counter; Serial Interface: 3xSPI/2xI2S/2xI2C/3xUSART(IrDa, ISO7816)/3xUART/1xUSB OTG FS/HS, 2xCAN/ SDIO; DatasheetVersion: rev2, Jan-2012; PackageVersion: 2012; PackageReference: TQFP64; PackageDescription: 64-Pin Low Profile Quad Flat Package, 10x10 mm Body, 0.5 mm Pitch; ComponentLink1Description: Manufacturer URL; ComponentLink1URL: http://www.st.com/; ComponentLink2Description: STM32F405/7 Datasheet; ComponentLink2URL: http://www.st.com/internet/com/TECHNICAL_RESOURCES/TECHNICAL_LITERATURE/DATASHEET/DM00037051.pdf; ComponentLink3Description: STM32F4 Web Page; ComponentLink3URL: http://www.st.com/internet/mcu/subclass/1521.jsp
footprint LQFP_64
pins: 1 VBAT (power), 2 PC13 (io), 3 PC14-OSC32_IN(PC14) (io), 4 PC15-OSC32_OUT(PC15) (io), 5 PH0-OSC_IN(PH0) (io), 6 PH1-OSC_OUT(PH1) (io), 7 NRST (io), 8 PC0/ADC_IN10 (io), 9 PC1/ADC_IN11 (io), 10 PC2/SPI2_MISO/ADC_IN12 (io), 11 PC3/SPI2_MOSI/ADC_IN13 (io), 12 VSSA (power), 13 VDDA (power), 14 PA0UART4_TX/TIM2_CH1_ETR/TIM5_CH1/ADC_IN0/WKUP (io), 15 PA1/UART4_RX/TIM5_CH2/TIM2_CH2/ADC_IN1 (io), 16 PA2/USART2_TX/TIM5_CH3/TIM9_CH1/TIM2_CH3/ADC_IN2 (io), 17 PA3/USART2_RX/TIM5_CH4/TIM9_CH2/TIM2_CH4/ADC_IN3 (io), 18 VSS (power), 19 VDD (power), 20 PA4/SPI1_NSS/SPI3_NSS/ADC_IN4/DAC_OUT1 (io), 21 PA5/SPI1_SCK/TIM2_CH1_ETR/TIM8_CHIN/ADC_IN5/DAC_OUT2 (io), 22 PA6/SPI1_MISO/TIM3_CH1/ADC_IN6 (io), 23 PA7/SPI1_MOSI/TIM3_CH2/TIM1_CH1N/ADC_IN7 (io), 24 PC4//ADC_IN14 (io), 25 PC5/ADC_IN15 (io), 26 PB0/TIM3_CH3/TIM8_CH2N/TIM1_CH2NADC_IN8 (io), 27 PB1/TIM3_CH4/TIM8_CH3N/TIM1_CH3N/ADC_IN9 (io), 28 PB2-BOOT1(PB2) (io), 29 PB10/SPI2_SCK/I2C2_SCL/USART3_TX/TIM2_CH3 (io), 30 PB11/I2C2_SDA/USART3_RX/TIM2_CH4 (io), 31 VCAP_1 (power), 32 VDD (power), 33 PB12/SPI2_NSS/CAN2_RX (io), 34 PB13/SPI2_SCK/TIM1_CH1N/CAN2_TX (io), 35 PB14/SPI2_MISO/TIM1_CH2N/TIM8_CH2N (io), 36 PB15/SPI2_MOSI/TIM1_CH3N/TIM8_CH3N (io), 37 PC6/TIM8_CH1/USART6_TX/TIM3_CH1 (io), 38 PC7/TIM8_CH2/USART6_RX/TIM3_CH2 (io), 39 PC8/TIM8_CH3/TIM3_CH3 (io), 40 PC9/TIM8_CH4//I2C3_SDA/TIM3_CH4 (io), 41 PA8/TIM1_CH1/I2C3_SCL (io), 42 PA9/USART1_TX/TIM1_CH2 (io), 43 PA10/USART1_RX/TIM1_CH3/OTG_FS_ID (io), 44 PA11/CAN1_RX/TIM1_CH4/OTG_FS_DM (io), 45 PA12/CAN1_TX/OTG_FS_DP (io), 46 PA13/SWDIO (io), 47 VCAP_2 (power), 48 VDD (power), 49 PA14/SWCLK (io), 50 PA15/SPI3_NSS/SPI1_NSS (io), 51 PC10/SPI3_SCK/UART4_TX/USART3_TX (io), 52 PC11/UART4_RX/SPI3_MISO/USART3_RX (io), 53 PC12/UART5_TX/SPI3_MOSI (io), 54 PD2/UART5_RX (io), 55 PB3/SPI3_SCK/TIM2_CH2/SPI1_SCK (io), 56 PB4/SPI3_MISO/TIM3_CH1/SPI1_MISO (io), 57 PB5/CAN2_RX/TIM3_CH2/SPI1_MOSI/SPI3_MOSI (io), 58 PB6/I2C1_SCL/TIM4_CH1/CAN2_TX/USART1_TX (io), 59 PB7/I2C1_SDA/USART1_RX/TIM4_CH2 (io), 60 BOOT0/VPP (in), 61 PB8/TIM4_CH3/I2C1_SCL/CAN1_RX (io), 62 PB9/SPI2_NSS/TIM4_CH4/I2C1_SDA/CAN1_TX (io), 63 VSS (power), 64 VDD (power)

## STM32F405RGT6_detail
designator U3, comment STM32F405RGT6
ARM Cortex-M4 32b MCU+FPU, 210DMIP, 1024 kB Flash, 192+4 kB RAM, 51 I/Os, 64-pin LQFP, -40 to +85癈, Tray; Internal RAM: 192kB; Operating Frequency (Processor Speed): 168MHz; A/D Converter: 16x12-bit; D/A Converter: 2x12-bit; 16-bit Timers (IC/OC/PWM): 12x16-bit(24/24/30); 32-bit Timer (IC/OC/PWM): 2x32-bit (8/8/8); Other Timer Functions: 2xWDG, RTC, 24-bit down counter; Serial Interface: 3xSPI/2xI2S/2xI2C/3xUSART(IrDa, ISO7816)/3xUART/1xUSB OTG FS/HS, 2xCAN/ SDIO; DatasheetVersion: rev2, Jan-2012; PackageVersion: 2012; PackageReference: TQFP64; PackageDescription: 64-Pin Low Profile Quad Flat Package, 10x10 mm Body, 0.5 mm Pitch; ComponentLink1Description: Manufacturer URL; ComponentLink1URL: http://www.st.com/; ComponentLink2Description: STM32F405/7 Datasheet; ComponentLink2URL: http://www.st.com/internet/com/TECHNICAL_RESOURCES/TECHNICAL_LITERATURE/DATASHEET/DM00037051.pdf; ComponentLink3Description: STM32F4 Web Page; ComponentLink3URL: http://www.st.com/internet/mcu/subclass/1521.jsp
footprint LQFP_64
pins: 1 VBAT (power), 2 PC13 (io), 3 PC14-OSC32_IN(PC14) (io), 4 PC15-OSC32_OUT(PC15) (io), 5 PH0-OSC_IN(PH0) (io), 6 PH1-OSC_OUT(PH1) (io), 7 NRST (io), 8 PC0/ADC_IN10 (io), 9 PC1/ADC_IN11 (io), 10 PC2/SPI2_MISO/ADC_IN12 (io), 11 PC3/SPI2_MOSI/ADC_IN13 (io), 12 VSSA (power), 13 VDDA (power), 14 PA0UART4_TX/TIM2_CH1_ETR/TIM5_CH1/ADC_IN0/WKUP (io), 15 PA1/UART4_RX/TIM5_CH2/TIM2_CH2/ADC_IN1 (io), 16 PA2/USART2_TX/TIM5_CH3/TIM9_CH1/TIM2_CH3/ADC_IN2 (io), 17 PA3/USART2_RX/TIM5_CH4/TIM9_CH2/TIM2_CH4/ADC_IN3 (io), 18 VSS (power), 19 VDD (power), 20 PA4/SPI1_NSS/SPI3_NSS/ADC_IN4 (io), 21 PA5/SPI1_SCK/TIM2_CH1_ETR/TIM8_CHIN/ADC_IN5 (io), 22 PA6/SPI1_MISO/TIM3_CH1/ADC_IN6 (io), 23 PA7/SPI1_MOSI/TIM3_CH2/TIM1_CH1N/ADC_IN7 (io), 24 PC4//ADC_IN14 (io), 25 PC5/ADC_IN15 (io), 26 PB0/TIM3_CH3/TIM8_CH2N/TIM1_CH2NADC_IN8 (io), 27 PB1/TIM3_CH4/TIM8_CH3N/TIM1_CH3N/ADC_IN9 (io), 28 PB2-BOOT1(PB2) (io), 29 PB10/SPI2_SCK/I2C2_SCL/USART3_TX/TIM2_CH3 (io), 30 PB11/I2C2_SDA/USART3_RX/TIM2_CH4 (io), 31 VCAP_1 (power), 32 VDD (power), 33 PB12/SPI2_NSS/CAN2_RX (io), 34 PB13/SPI2_SCK/TIM1_CH1N/CAN2_TX (io), 35 PB14/SPI2_MISO/TIM1_CH2N/TIM8_CH2N (io), 36 PB15/SPI2_MOSI/TIM1_CH3N/TIM8_CH3N (io), 37 PC6/TIM8_CH1/USART6_TX/TIM3_CH1 (io), 38 PC7/TIM8_CH2/USART6_RX/TIM3_CH2 (io), 39 PC8/TIM8_CH3/TIM3_CH3 (io), 40 PC9/TIM8_CH4//I2C3_SDA/TIM3_CH4 (io), 41 PA8/TIM1_CH1/I2C3_SCL (io), 42 PA9/USART1_TX/TIM1_CH2 (io), 43 PA10/USART1_RX/TIM1_CH3/OTG_FS_ID (io), 44 PA11/CAN1_RX/TIM1_CH4/OTG_FS_DM (io), 45 PA12/CAN1_TX/OTG_FS_DP (io), 46 PA13/SWDIO (io), 47 VCAP_2 (power), 48 VDD (power), 49 PA14/SWCLK (io), 50 PA15/SPI3_NSS/SPI1_NSS (io), 51 PC10/SPI3_SCK/UART4_TX/USART3_TX (io), 52 PC11/UART4_RX/SPI3_MISO/USART3_RX (io), 53 PC12/UART5_TX/SPI3_MOSI (io), 54 PD2/UART5_RX (io), 55 PB3/SPI3_SCK/TIM2_CH2/SPI1_SCK (io), 56 PB4/SPI3_MISO/TIM3_CH1/SPI1_MISO (io), 57 PB5/CAN2_RX/TIM3_CH2/SPI1_MOSI/SPI3_MOSI (io), 58 PB6/I2C1_SCL/TIM4_CH1/CAN2_TX/USART1_TX (io), 59 PB7/I2C1_SDA/USART1_RX/TIM4_CH2 (io), 60 BOOT0/VPP (in), 61 PB8/TIM4_CH3/I2C1_SCL/CAN1_RX (io), 62 PB9/SPI2_NSS/TIM4_CH4/I2C1_SDA/CAN1_TX (io), 63 VSS (power), 64 VDD (power)

## STM32F405RGT6_detail_1
designator U?, comment STM32F405RGT6
ARM Cortex-M4 32b MCU+FPU, 210DMIP, 1024 kB Flash, 192+4 kB RAM, 51 I/Os, 64-pin LQFP, -40 to +85癈, Tray; Internal RAM: 192kB; Operating Frequency (Processor Speed): 168MHz; A/D Converter: 16x12-bit; D/A Converter: 2x12-bit; 16-bit Timers (IC/OC/PWM): 12x16-bit(24/24/30); 32-bit Timer (IC/OC/PWM): 2x32-bit (8/8/8); Other Timer Functions: 2xWDG, RTC, 24-bit down counter; Serial Interface: 3xSPI/2xI2S/2xI2C/3xUSART(IrDa, ISO7816)/3xUART/1xUSB OTG FS/HS, 2xCAN/ SDIO; DatasheetVersion: rev2, Jan-2012; PackageVersion: 2012; PackageReference: TQFP64; PackageDescription: 64-Pin Low Profile Quad Flat Package, 10x10 mm Body, 0.5 mm Pitch; ComponentLink1Description: Manufacturer URL; ComponentLink1URL: http://www.st.com/; ComponentLink2Description: STM32F405/7 Datasheet; ComponentLink2URL: http://www.st.com/internet/com/TECHNICAL_RESOURCES/TECHNICAL_LITERATURE/DATASHEET/DM00037051.pdf; ComponentLink3Description: STM32F4 Web Page; ComponentLink3URL: http://www.st.com/internet/mcu/subclass/1521.jsp
footprint LQFP_64
pins: 1 VBAT (power), 2 PC13 (io), 3 PC14-OSC32_IN(PC14) (io), 4 PC15-OSC32_OUT(PC15) (io), 5 PH0-OSC_IN(PH0) (io), 6 PH1-OSC_OUT(PH1) (io), 7 NRST (io), 8 PC0/ADC_IN10 (io), 9 PC1/ADC_IN11 (io), 10 PC2/SPI2_MISO/ADC_IN12 (io), 11 PC3/SPI2_MOSI/ADC_IN13 (io), 12 VSSA (power), 13 VDDA (power), 14 PA0UART4_TX/TIM2_CH1_ETR/TIM5_CH1/ADC_IN0/WKUP (io), 15 PA1/UART4_RX/TIM5_CH2/TIM2_CH2/ADC_IN1 (io), 16 PA2/USART2_TX/TIM5_CH3/TIM9_CH1/TIM2_CH3/ADC_IN2 (io), 17 PA3/USART2_RX/TIM5_CH4/TIM9_CH2/TIM2_CH4/ADC_IN3 (io), 18 VSS (power), 19 VDD (power), 20 PA4/SPI1_NSS/SPI3_NSS/ADC_IN4 (io), 21 PA5/SPI1_SCK/TIM2_CH1_ETR/TIM8_CHIN/ADC_IN5 (io), 22 PA6/SPI1_MISO/TIM3_CH1/ADC_IN6 (io), 23 PA7/SPI1_MOSI/TIM3_CH2/TIM1_CH1N/ADC_IN7 (io), 24 PC4//ADC_IN14 (io), 25 PC5/ADC_IN15 (io), 26 PB0/TIM3_CH3/TIM8_CH2N/TIM1_CH2NADC_IN8 (io), 27 PB1/TIM3_CH4/TIM8_CH3N/TIM1_CH3N/ADC_IN9 (io), 28 PB2-BOOT1(PB2) (io), 29 PB10/SPI2_SCK/I2C2_SCL/USART3_TX/TIM2_CH3 (io), 30 PB11/I2C2_SDA/USART3_RX/TIM2_CH4 (io), 31 VCAP_1 (power), 32 VDD (power), 33 PB12/SPI2_NSS/CAN2_RX (io), 34 PB13/SPI2_SCK/TIM1_CH1N/CAN2_TX (io), 35 PB14/SPI2_MISO/TIM1_CH2N/TIM8_CH2N (io), 36 PB15/SPI2_MOSI/TIM1_CH3N/TIM8_CH3N (io), 37 PC6/TIM8_CH1/USART6_TX/TIM3_CH1 (io), 38 PC7/TIM8_CH2/USART6_RX/TIM3_CH2 (io), 39 PC8/TIM8_CH3/TIM3_CH3 (io), 40 PC9/TIM8_CH4//I2C3_SDA/TIM3_CH4 (io), 41 PA8/TIM1_CH1/I2C3_SCL (io), 42 PA9/USART1_TX/TIM1_CH2 (io), 43 PA10/USART1_RX/TIM1_CH3/OTG_FS_ID (io), 44 PA11/CAN1_RX/TIM1_CH4/OTG_FS_DM (io), 45 PA12/CAN1_TX/OTG_FS_DP (io), 46 PA13/SWDIO (io), 47 VCAP_2 (power), 48 VDD (power), 49 PA14/SWCLK (io), 50 PA15/SPI3_NSS/SPI1_NSS (io), 51 PC10/SPI3_SCK/UART4_TX/USART3_TX (io), 52 PC11/UART4_RX/SPI3_MISO/USART3_RX (io), 53 PC12/UART5_TX/SPI3_MOSI (io), 54 PD2/UART5_RX (io), 55 PB3/SPI3_SCK/TIM2_CH2/SPI1_SCK (io), 56 PB4/SPI3_MISO/TIM3_CH1/SPI1_MISO (io), 57 PB5/CAN2_RX/TIM3_CH2/SPI1_MOSI/SPI3_MOSI (io), 58 PB6/I2C1_SCL/TIM4_CH1/CAN2_TX/USART1_TX (io), 59 PB7/I2C1_SDA/USART1_RX/TIM4_CH2 (io), 60 BOOT0/VPP (in), 61 PB8/TIM4_CH3/I2C1_SCL/CAN1_RX (io), 62 PB9/SPI2_NSS/TIM4_CH4/I2C1_SDA/CAN1_TX (io), 63 VSS (power), 64 VDD (power)

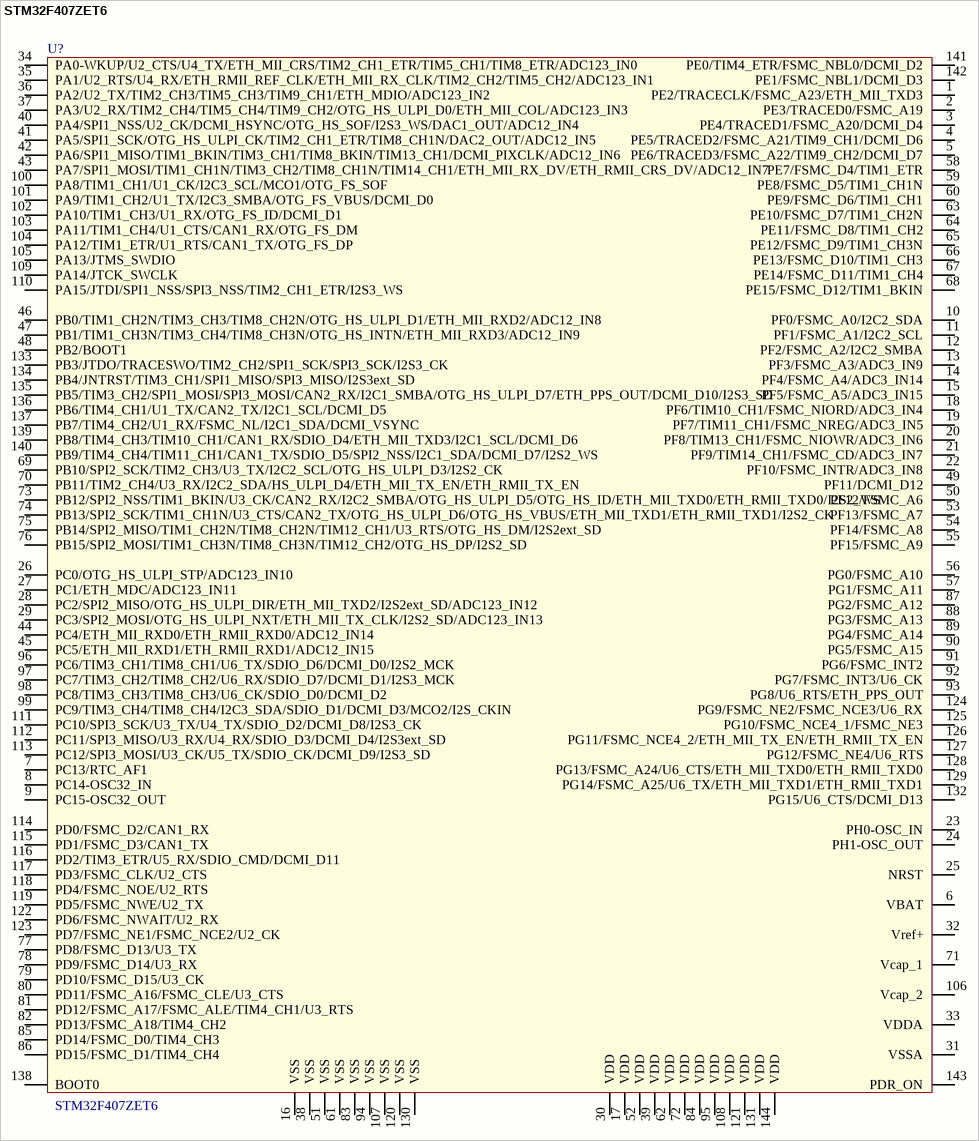
[diagram p11: symbol STM32F407ZET6]

## STM32F407ZET6
designator U?
footprint LQFP144
pins: 1 PE2/TRACECLK/FSMC_A23/ETH_MII_TXD3, 2 PE3/TRACED0/FSMC_A19, 3 PE4/TRACED1/FSMC_A20/DCMI_D4, 4 PE5/TRACED2/FSMC_A21/TIM9_CH1/DCMI_D6, 5 PE6/TRACED3/FSMC_A22/TIM9_CH2/DCMI_D7, 6 VBAT, 7 PC13/RTC_AF1, 8 PC14-OSC32_IN, 9 PC15-OSC32_OUT, 10 PF0/FSMC_A0/I2C2_SDA, 11 PF1/FSMC_A1/I2C2_SCL, 12 PF2/FSMC_A2/I2C2_SMBA, 13 PF3/FSMC_A3/ADC3_IN9, 14 PF4/FSMC_A4/ADC3_IN14, 15 PF5/FSMC_A5/ADC3_IN15, 16 VSS, 17 VDD, 18 PF6/TIM10_CH1/FSMC_NIORD/ADC3_IN4, 19 PF7/TIM11_CH1/FSMC_NREG/ADC3_IN5, 20 PF8/TIM13_CH1/FSMC_NIOWR/ADC3_IN6, 21 PF9/TIM14_CH1/FSMC_CD/ADC3_IN7, 22 PF10/FSMC_INTR/ADC3_IN8, 23 PH0-OSC_IN, 24 PH1-OSC_OUT, 25 NRST, 26 PC0/OTG_HS_ULPI_STP/ADC123_IN10, 27 PC1/ETH_MDC/ADC123_IN11, 28 PC2/SPI2_MISO/OTG_HS_ULPI_DIR/ETH_MII_TXD2/I2S2ext_SD/ADC123_IN12, 29 PC3/SPI2_MOSI/OTG_HS_ULPI_NXT/ETH_MII_TX_CLK/I2S2_SD/ADC123_IN13, 30 VDD, 31 VSSA, 32 Vref+, 33 VDDA, 34 PA0-WKUP/U2_CTS/U4_TX/ETH_MII_CRS/TIM2_CH1_ETR/TIM5_CH1/TIM8_ETR/ADC123_IN0, 35 PA1/U2_RTS/U4_RX/ETH_RMII_REF_CLK/ETH_MII_RX_CLK/TIM2_CH2/TIM5_CH2/ADC123_IN1, 36 PA2/U2_TX/TIM2_CH3/TIM5_CH3/TIM9_CH1/ETH_MDIO/ADC123_IN2, 37 PA3/U2_RX/TIM2_CH4/TIM5_CH4/TIM9_CH2/OTG_HS_ULPI_D0/ETH_MII_COL/ADC123_IN3, 38 VSS, 39 VDD, 40 PA4/SPI1_NSS/U2_CK/DCMI_HSYNC/OTG_HS_SOF/I2S3_WS/DAC1_OUT/ADC12_IN4, 41 PA5/SPI1_SCK/OTG_HS_ULPI_CK/TIM2_CH1_ETR/TIM8_CH1N/DAC2_OUT/ADC12_IN5, 42 PA6/SPI1_MISO/TIM1_BKIN/TIM3_CH1/TIM8_BKIN/TIM13_CH1/DCMI_PIXCLK/ADC12_IN6, 43 PA7/SPI1_MOSI/TIM1_CH1N/TIM3_CH2/TIM8_CH1N/TIM14_CH1/ETH_MII_RX_DV/ETH_RMII_CRS_DV/ADC12_IN7, 44 PC4/ETH_MII_RXD0/ETH_RMII_RXD0/ADC12_IN14, 45 PC5/ETH_MII_RXD1/ETH_RMII_RXD1/ADC12_IN15, 46 PB0/TIM1_CH2N/TIM3_CH3/TIM8_CH2N/OTG_HS_ULPI_D1/ETH_MII_RXD2/ADC12_IN8, 47 PB1/TIM1_CH3N/TIM3_CH4/TIM8_CH3N/OTG_HS_INTN/ETH_MII_RXD3/ADC12_IN9, 48 PB2/BOOT1, 49 PF11/DCMI_D12, 50 PF12/FSMC_A6, 51 VSS, 52 VDD, 53 PF13/FSMC_A7, 54 PF14/FSMC_A8, 55 PF15/FSMC_A9, 56 PG0/FSMC_A10, 57 PG1/FSMC_A11, 58 PE7/FSMC_D4/TIM1_ETR, 59 PE8/FSMC_D5/TIM1_CH1N, 60 PE9/FSMC_D6/TIM1_CH1, 61 VSS, 62 VDD, 63 PE10/FSMC_D7/TIM1_CH2N, 64 PE11/FSMC_D8/TIM1_CH2, 65 PE12/FSMC_D9/TIM1_CH3N, 66 PE13/FSMC_D10/TIM1_CH3, 67 PE14/FSMC_D11/TIM1_CH4, 68 PE15/FSMC_D12/TIM1_BKIN, 69 PB10/SPI2_SCK/TIM2_CH3/U3_TX/I2C2_SCL/OTG_HS_ULPI_D3/I2S2_CK, 70 PB11/TIM2_CH4/U3_RX/I2C2_SDA/HS_ULPI_D4/ETH_MII_TX_EN/ETH_RMII_TX_EN, 71 Vcap_1, 72 VDD, 73 PB12/SPI2_NSS/TIM1_BKIN/U3_CK/CAN2_RX/I2C2_SMBA/OTG_HS_ULPI_D5/OTG_HS_ID/ETH_MII_TXD0/ETH_RMII_TXD0/I2S2_WS, 74 PB13/SPI2_SCK/TIM1_CH1N/U3_CTS/CAN2_TX/OTG_HS_ULPI_D6/OTG_HS_VBUS/ETH_MII_TXD1/ETH_RMII_TXD1/I2S2_CK, 75 PB14/SPI2_MISO/TIM1_CH2N/TIM8_CH2N/TIM12_CH1/U3_RTS/OTG_HS_DM/I2S2ext_SD, 76 PB15/SPI2_MOSI/TIM1_CH3N/TIM8_CH3N/TIM12_CH2/OTG_HS_DP/I2S2_SD, 77 PD8/FSMC_D13/U3_TX, 78 PD9/FSMC_D14/U3_RX, 79 PD10/FSMC_D15/U3_CK, 80 PD11/FSMC_A16/FSMC_CLE/U3_CTS, 81 PD12/FSMC_A17/FSMC_ALE/TIM4_CH1/U3_RTS, 82 PD13/FSMC_A18/TIM4_CH2, 83 VSS, 84 VDD, 85 PD14/FSMC_D0/TIM4_CH3, 86 PD15/FSMC_D1/TIM4_CH4, 87 PG2/FSMC_A12, 88 PG3/FSMC_A13, 89 PG4/FSMC_A14, 90 PG5/FSMC_A15, 91 PG6/FSMC_INT2, 92 PG7/FSMC_INT3/U6_CK, 93 PG8/U6_RTS/ETH_PPS_OUT, 94 VSS, 95 VDD, 96 PC6/TIM3_CH1/TIM8_CH1/U6_TX/SDIO_D6/DCMI_D0/I2S2_MCK, 97 PC7/TIM3_CH2/TIM8_CH2/U6_RX/SDIO_D7/DCMI_D1/I2S3_MCK, 98 PC8/TIM3_CH3/TIM8_CH3/U6_CK/SDIO_D0/DCMI_D2, 99 PC9/TIM3_CH4/TIM8_CH4/I2C3_SDA/SDIO_D1/DCMI_D3/MCO2/I2S_CKIN, 100 PA8/TIM1_CH1/U1_CK/I2C3_SCL/MCO1/OTG_FS_SOF, 101 PA9/TIM1_CH2/U1_TX/I2C3_SMBA/OTG_FS_VBUS/DCMI_D0, 102 PA10/TIM1_CH3/U1_RX/OTG_FS_ID/DCMI_D1, 103 PA11/TIM1_CH4/U1_CTS/CAN1_RX/OTG_FS_DM, 104 PA12/TIM1_ETR/U1_RTS/CAN1_TX/OTG_FS_DP, 105 PA13/JTMS_SWDIO, 106 Vcap_2, 107 VSS, 108 VDD, 109 PA14/JTCK_SWCLK, 110 PA15/JTDI/SPI1_NSS/SPI3_NSS/TIM2_CH1_ETR/I2S3_WS, 111 PC10/SPI3_SCK/U3_TX/U4_TX/SDIO_D2/DCMI_D8/I2S3_CK, 112 PC11/SPI3_MISO/U3_RX/U4_RX/SDIO_D3/DCMI_D4/I2S3ext_SD, 113 PC12/SPI3_MOSI/U3_CK/U5_TX/SDIO_CK/DCMI_D9/I2S3_SD, 114 PD0/FSMC_D2/CAN1_RX, 115 PD1/FSMC_D3/CAN1_TX, 116 PD2/TIM3_ETR/U5_RX/SDIO_CMD/DCMI_D11, 117 PD3/FSMC_CLK/U2_CTS, 118 PD4/FSMC_NOE/U2_RTS, 119 PD5/FSMC_NWE/U2_TX, 120 VSS, 121 VDD, 122 PD6/FSMC_NWAIT/U2_RX, 123 PD7/FSMC_NE1/FSMC_NCE2/U2_CK, 124 PG9/FSMC_NE2/FSMC_NCE3/U6_RX, 125 PG10/FSMC_NCE4_1/FSMC_NE3, 126 PG11/FSMC_NCE4_2/ETH_MII_TX_EN/ETH_RMII_TX_EN, 127 PG12/FSMC_NE4/U6_RTS, 128 PG13/FSMC_A24/U6_CTS/ETH_MII_TXD0/ETH_RMII_TXD0, 129 PG14/FSMC_A25/U6_TX/ETH_MII_TXD1/ETH_RMII_TXD1, 130 VSS, 131 VDD, 132 PG15/U6_CTS/DCMI_D13, 133 PB3/JTDO/TRACESWO/TIM2_CH2/SPI1_SCK/SPI3_SCK/I2S3_CK, 134 PB4/JNTRST/TIM3_CH1/SPI1_MISO/SPI3_MISO/I2S3ext_SD, 135 PB5/TIM3_CH2/SPI1_MOSI/SPI3_MOSI/CAN2_RX/I2C1_SMBA/OTG_HS_ULPI_D7/ETH_PPS_OUT/DCMI_D10/I2S3_SD, 136 PB6/TIM4_CH1/U1_TX/CAN2_TX/I2C1_SCL/DCMI_D5, 137 PB7/TIM4_CH2/U1_RX/FSMC_NL/I2C1_SDA/DCMI_VSYNC, 138 BOOT0, 139 PB8/TIM4_CH3/TIM10_CH1/CAN1_RX/SDIO_D4/ETH_MII_TXD3/I2C1_SCL/DCMI_D6, 140 PB9/TIM4_CH4/TIM11_CH1/CAN1_TX/SDIO_D5/SPI2_NSS/I2C1_SDA/DCMI_D7/I2S2_WS, 141 PE0/TIM4_ETR/FSMC_NBL0/DCMI_D2, 142 PE1/FSMC_NBL1/DCMI_D3, 143 PDR_ON, 144 VDD

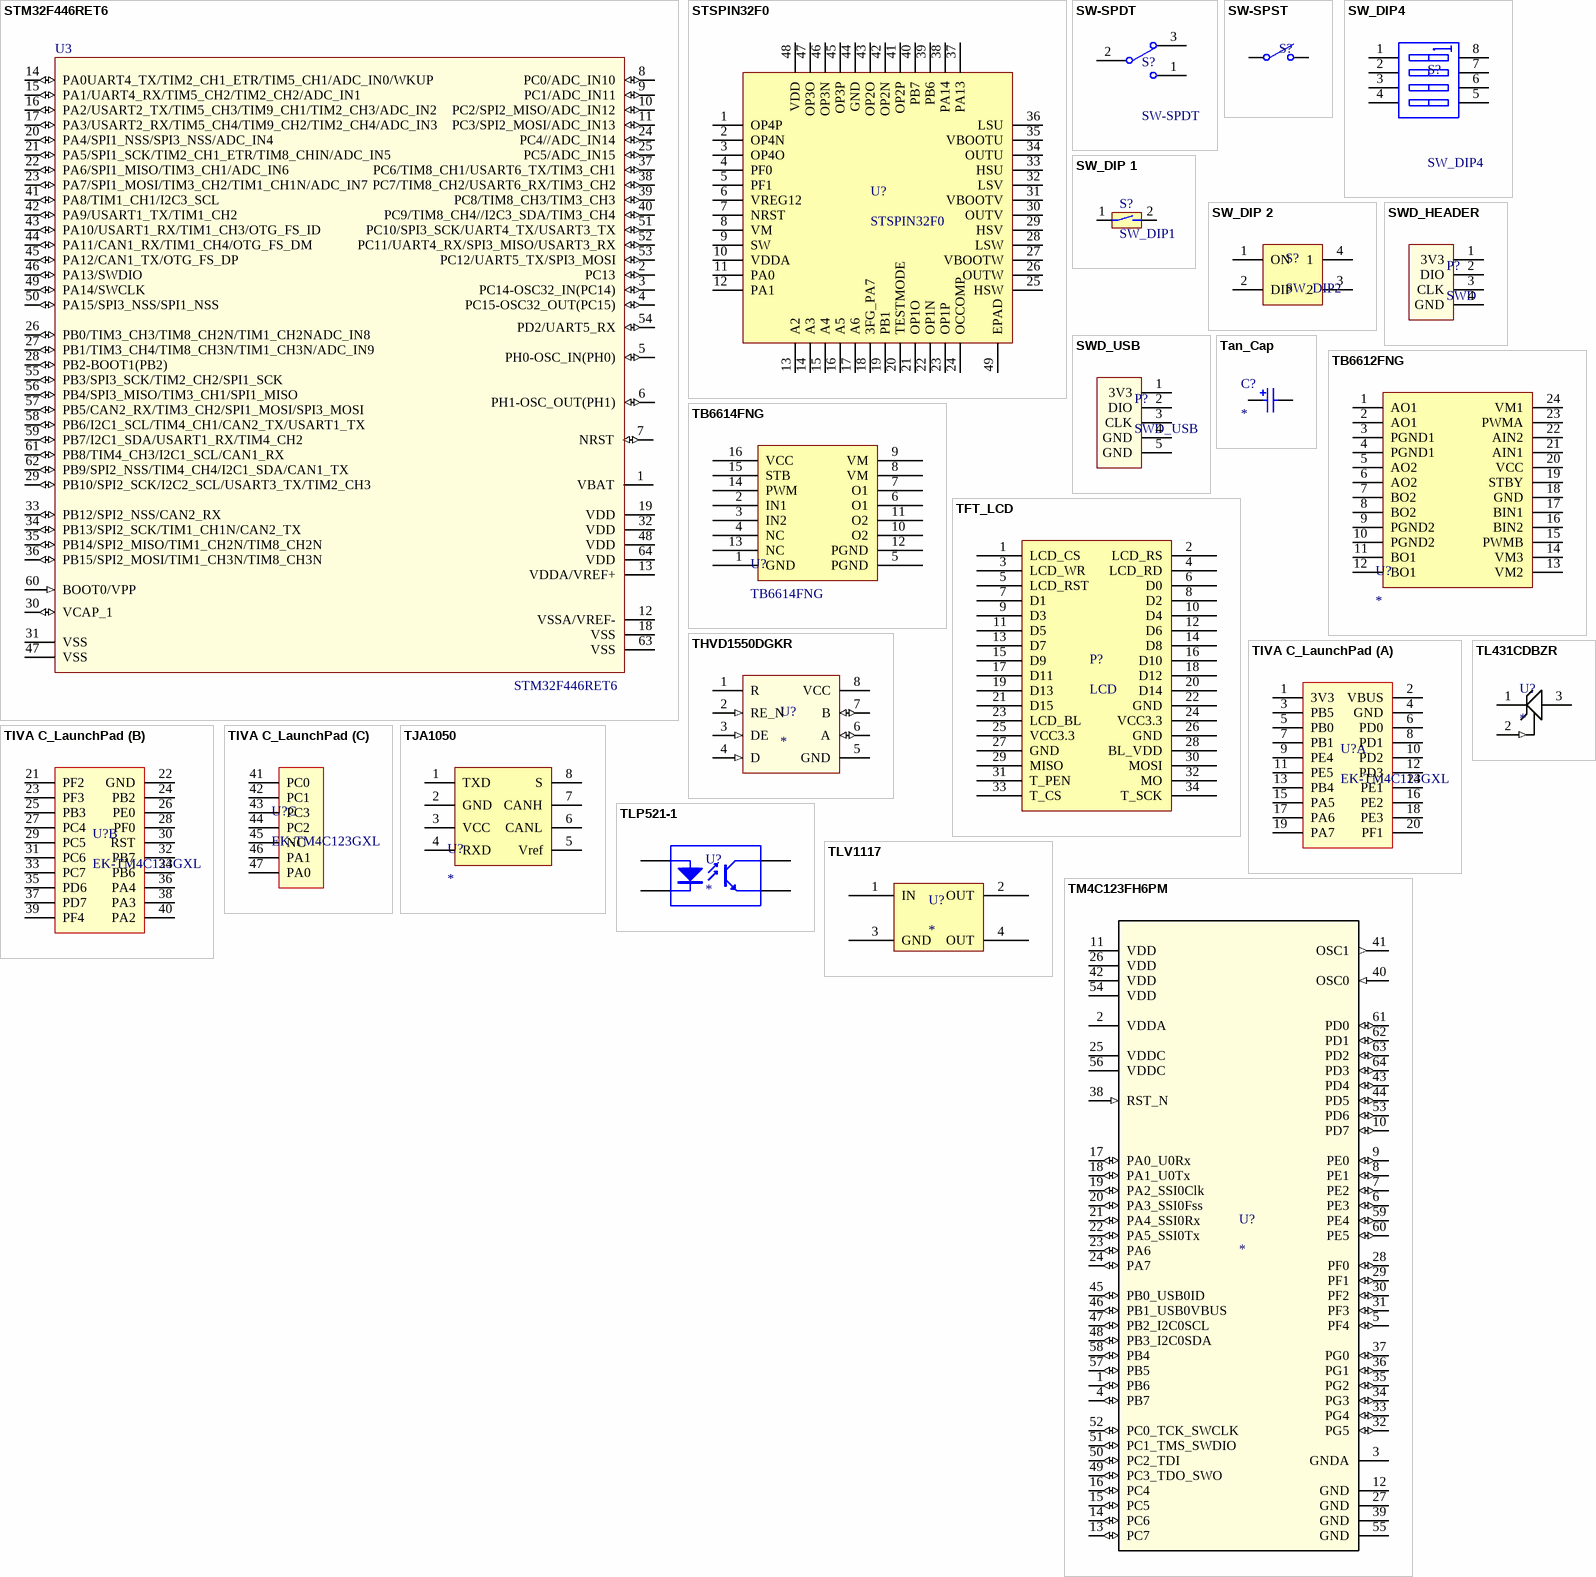
[diagram p12: symbols STM32F446RET6 to TM4C123FH6PM]

## STM32F446RET6
designator U3
ARM Cortex-M4 32b MCU+FPU, 210DMIP, 1024 kB Flash, 192+4 kB RAM, 51 I/Os, 64-pin LQFP, -40 to +85癈, Tray; Internal RAM: 192kB; Operating Frequency (Processor Speed): 168MHz; A/D Converter: 16x12-bit; D/A Converter: 2x12-bit; 16-bit Timers (IC/OC/PWM): 12x16-bit(24/24/30); 32-bit Timer (IC/OC/PWM): 2x32-bit (8/8/8); Other Timer Functions: 2xWDG, RTC, 24-bit down counter; Serial Interface: 3xSPI/2xI2S/2xI2C/3xUSART(IrDa, ISO7816)/3xUART/1xUSB OTG FS/HS, 2xCAN/ SDIO; DatasheetVersion: rev2, Jan-2012; PackageVersion: 2012; PackageReference: TQFP64; PackageDescription: 64-Pin Low Profile Quad Flat Package, 10x10 mm Body, 0.5 mm Pitch; ComponentLink1Description: Manufacturer URL; ComponentLink1URL: http://www.st.com/; ComponentLink2Description: STM32F405/7 Datasheet; ComponentLink2URL: http://www.st.com/internet/com/TECHNICAL_RESOURCES/TECHNICAL_LITERATURE/DATASHEET/DM00037051.pdf; ComponentLink3Description: STM32F4 Web Page; ComponentLink3URL: http://www.st.com/internet/mcu/subclass/1521.jsp
footprint LQFP_64
pins: 1 VBAT (power), 2 PC13 (io), 3 PC14-OSC32_IN(PC14) (io), 4 PC15-OSC32_OUT(PC15) (io), 5 PH0-OSC_IN(PH0) (io), 6 PH1-OSC_OUT(PH1) (io), 7 NRST (io), 8 PC0/ADC_IN10 (io), 9 PC1/ADC_IN11 (io), 10 PC2/SPI2_MISO/ADC_IN12 (io), 11 PC3/SPI2_MOSI/ADC_IN13 (io), 12 VSSA/VREF- (power), 13 VDDA/VREF+ (power), 14 PA0UART4_TX/TIM2_CH1_ETR/TIM5_CH1/ADC_IN0/WKUP (io), 15 PA1/UART4_RX/TIM5_CH2/TIM2_CH2/ADC_IN1 (io), 16 PA2/USART2_TX/TIM5_CH3/TIM9_CH1/TIM2_CH3/ADC_IN2 (io), 17 PA3/USART2_RX/TIM5_CH4/TIM9_CH2/TIM2_CH4/ADC_IN3 (io), 18 VSS (power), 19 VDD (power), 20 PA4/SPI1_NSS/SPI3_NSS/ADC_IN4 (io), 21 PA5/SPI1_SCK/TIM2_CH1_ETR/TIM8_CHIN/ADC_IN5 (io), 22 PA6/SPI1_MISO/TIM3_CH1/ADC_IN6 (io), 23 PA7/SPI1_MOSI/TIM3_CH2/TIM1_CH1N/ADC_IN7 (io), 24 PC4//ADC_IN14 (io), 25 PC5/ADC_IN15 (io), 26 PB0/TIM3_CH3/TIM8_CH2N/TIM1_CH2NADC_IN8 (io), 27 PB1/TIM3_CH4/TIM8_CH3N/TIM1_CH3N/ADC_IN9 (io), 28 PB2-BOOT1(PB2) (io), 29 PB10/SPI2_SCK/I2C2_SCL/USART3_TX/TIM2_CH3 (io), 30 VCAP_1 (io), 31 VSS (power), 32 VDD (power), 33 PB12/SPI2_NSS/CAN2_RX (io), 34 PB13/SPI2_SCK/TIM1_CH1N/CAN2_TX (io), 35 PB14/SPI2_MISO/TIM1_CH2N/TIM8_CH2N (io), 36 PB15/SPI2_MOSI/TIM1_CH3N/TIM8_CH3N (io), 37 PC6/TIM8_CH1/USART6_TX/TIM3_CH1 (io), 38 PC7/TIM8_CH2/USART6_RX/TIM3_CH2 (io), 39 PC8/TIM8_CH3/TIM3_CH3 (io), 40 PC9/TIM8_CH4//I2C3_SDA/TIM3_CH4 (io), 41 PA8/TIM1_CH1/I2C3_SCL (io), 42 PA9/USART1_TX/TIM1_CH2 (io), 43 PA10/USART1_RX/TIM1_CH3/OTG_FS_ID (io), 44 PA11/CAN1_RX/TIM1_CH4/OTG_FS_DM (io), 45 PA12/CAN1_TX/OTG_FS_DP (io), 46 PA13/SWDIO (io), 47 VSS (power), 48 VDD (power), 49 PA14/SWCLK (io), 50 PA15/SPI3_NSS/SPI1_NSS (io), 51 PC10/SPI3_SCK/UART4_TX/USART3_TX (io), 52 PC11/UART4_RX/SPI3_MISO/USART3_RX (io), 53 PC12/UART5_TX/SPI3_MOSI (io), 54 PD2/UART5_RX (io), 55 PB3/SPI3_SCK/TIM2_CH2/SPI1_SCK (io), 56 PB4/SPI3_MISO/TIM3_CH1/SPI1_MISO (io), 57 PB5/CAN2_RX/TIM3_CH2/SPI1_MOSI/SPI3_MOSI (io), 58 PB6/I2C1_SCL/TIM4_CH1/CAN2_TX/USART1_TX (io), 59 PB7/I2C1_SDA/USART1_RX/TIM4_CH2 (io), 60 BOOT0/VPP (in), 61 PB8/TIM4_CH3/I2C1_SCL/CAN1_RX (io), 62 PB9/SPI2_NSS/TIM4_CH4/I2C1_SDA/CAN1_TX (io), 63 VSS (power), 64 VDD (power)

## STSPIN32F0
designator U?
footprint VFQFPN-48
pins: 1 OP4P, 2 OP4N, 3 OP4O, 4 PF0, 5 PF1, 6 VREG12, 7 NRST, 8 VM, 9 SW, 10 VDDA, 11 PA0, 12 PA1, 13 A2, 14 A3, 15 A4, 16 A5, 17 A6, 18 3FG_PA7 "3FG漏极开路输出或MCU PA7", 19 PB1, 20 TESTMODE, 21 OP1O, 22 OP1N, 23 OP1P, 24 OCCOMP, 25 HSW, 26 OUTW, 27 VBOOTW, 28 LSW, 29 HSV, 30 OUTV, 31 VBOOTV, 32 LSV, 33 HSU, 34 OUTU, 35 VBOOTU, 36 LSU, 37 PA13, 38 PA14, 39 PB6, 40 PB7, 41 OP2P, 42 OP2N, 43 OP2O, 44 GND, 45 OP3P, 46 OP3N, 47 OP3O, 48 VDD, 49 EPAD

## SW-SPDT
designator S?
SPDT Subminiature Toggle Switch, Right Angle Mounting, Vertical Actuation; Published: 24-Mar-1999; LatestRevisionDate: 17-Dec-2003; LatestRevisionNote: Schematic revised, PCB Footprint replaced.; DatasheetDocument: 05-Dec-2000; PackageReference: TL36WW15050; Publisher: Altium Limited; ComponentLink1Description: Manufacturer Link; ComponentLink1URL: http://www.apem.com
footprint SW-TP
footprint Switch_SK_12D07
footprint Switch_SK_12D07
pins: 1, 2, 3

## SW-SPST
designator S?
Single-Pole, Single-Throw Switch; Published: 24-Mar-1999; LatestRevisionDate: 17-Jul-2002; LatestRevisionNote: Re-released for DXP Platform.; PackageReference: SPST-2; Publisher: Altium Limited
footprint SW-POWER
pins: 1 COMMON, 2 NO

## SW_DIP4
designator S?
DIP Switch, 4 Position, SPST; Published: 24-Mar-1999; LatestRevisionDate: 29-May-2009; LatestRevisionNote: IPC-7351 Footprint Added.; PackageVersion: Dec-2002; PackageReference: SO8; Publisher: Altium Limited; PackageDescription: 8-Pin Small Outline Integrated Circuit 1.27 mm Pitch; Code_JEDEC: MS-012-AA; Code_IPC: SOIC127P600-8
footprint SO8_N (SOIC, 8-Leads, Body 4.9x3.9mm, Pitch 1.27mm, IPC Medium Density)
footprint SO8_L (SOIC, 8-Leads, Body 4.9x3.9mm, Pitch 1.27mm, IPC High Density)
footprint SO8_M (SOIC, 8-Leads, Body 4.9x3.9mm, Pitch 1.27mm, IPC Low Density)
simulation model dpsw4 (Spice Subcircuit)
footprint SW-P4
footprint SW-DIP4
pins: 1 A1, 2 A2, 3 A3, 4 A4, 5 B4, 6 B3, 7 B2, 8 B1

## SW_DIP 1
designator S?, comment SW_DIP1
footprint SW_DIP_1X2
footprint MSK-12C01-07 (6.7*2.8*1.5mm(长宽高）拨动开关)
pins: 1 ON, 2 DIP

## SW_DIP 2
designator S?, comment SW_DIP2
footprint SW_DIP_2x2
pins: 1 ON, 2 DIP, 3 2, 4 1

## SWD_HEADER
designator P?, comment SWD
footprint HEADER 4x1 (2.54mm 排针)
footprint A1.25WF-4P
pins: 1 3V3, 2 DIO, 3 CLK, 4 GND

## SWD_USB
designator P?
footprint MICRO_USB_四脚 (micro型USB ，5.7*7.8*2.5mm)
footprint Micro_USB_贴片
pins: 1 3V3, 2 DIO, 3 CLK, 4 GND, 5 GND

## Tan_Cap
designator C?
footprint cap_d
footprint cap_a
footprint cap_b
footprint cap_c
pins: 1, 2

## TB6612FNG
designator U?
footprint sop24 (TSOP, 24-Leads, Body 7.80x5.60mm, Pitch 0.65mm, IPC Medium Density)
pins: 1 AO1, 2 AO1, 3 PGND1, 4 PGND1, 5 AO2, 6 AO2, 7 BO2, 8 BO2, 9 PGND2, 10 PGND2, 11 BO1, 12 BO1, 13 VM2, 14 VM3, 15 PWMB, 16 BIN2, 17 BIN1, 18 GND, 19 STBY, 20 VCC, 21 AIN1, 22 AIN2, 23 PWMA, 24 VM1

## TB6614FNG
designator U?
footprint sop16 (TSOP, 16-Leads, Body 5.50x4.40mm, Pitch 0.65mm, IPC Medium Density)
pins: 1 GND, 2 IN1, 3 IN2, 4 NC, 5 PGND, 6 O1, 7 O1, 8 VM, 9 VM, 10 O2, 11 O2, 12 PGND, 13 NC, 14 PWM, 15 STB, 16 VCC

## TFT_LCD
designator P?, comment LCD
正点接口LCD
footprint FPC 0.5mm 34pin (0.5间距FPC插座)
pins: 1 LCD_CS, 2 LCD_RS, 3 LCD_WR, 4 LCD_RD, 5 LCD_RST, 6 D0, 7 D1, 8 D2, 9 D3, 10 D4, 11 D5, 12 D6, 13 D7, 14 D8, 15 D9, 16 D10, 17 D11, 18 D12, 19 D13, 20 D14, 21 D15, 22 GND, 23 LCD_BL, 24 VCC3.3, 25 VCC3.3, 26 GND, 27 GND, 28 BL_VDD, 29 MISO, 30 MOSI, 31 T_PEN, 32 MO, 33 T_CS, 34 T_SCK

## THVD1550DGKR
designator U?
Imported; PartNumber: THVD1550DGKR; Manufacturer: Texas Instruments; RefDes: RefDes; TYPE: TYPE; Value: Value
footprint VSSOP(DGK)
pins: 1 R (hiz), 2 RE_N (in), 3 DE (in), 4 D (in), 5 GND (power), 6 A (io), 7 B (io), 8 VCC (power)

## TIVA C_LaunchPad
designator U?, comment EK-TM4C123GXL
footprint TIVA C_LaunchPad
part A pins: 1 3V3, 2 VBUS, 3 PB5, 4 GND, 5 PB0, 6 PD0, 7 PB1, 8 PD1, 9 PE4, 10 PD2, 11 PE5, 12 PD3, 13 PB4, 14 PE1, 15 PA5, 16 PE2, 17 PA6, 18 PE3, 19 PA7, 20 PF1
part B pins: 21 PF2, 22 GND, 23 PF3, 24 PB2, 25 PB3, 26 PE0, 27 PC4, 28 PF0, 29 PC5, 30 RST, 31 PC6, 32 PB7, 33 PC7, 34 PB6, 35 PD6, 36 PA4, 37 PD7, 38 PA3, 39 PF4, 40 PA2
part C pins: 41 PC0, 42 PC1, 43 PC3, 44 PC2, 45 NC, 46 PA1, 47 PA0

## TJA1050
designator U?
footprint SOIC8 (SOIC, 8-Leads, Body 4.90x3.90mm, Pitch 1.27mm, IPC Medium Density)
pins: 1 TXD, 2 GND, 3 VCC, 4 RXD, 5 Vref, 6 CANL, 7 CANH, 8 S

## TL431CDBZR
designator U?
Imported; PartNumber: TL431AIDBZ; Manufacturer: Texas Instruments; CompType: IC; PIN_COUNT: 3; PackageReference: DBZ0003A; MountType: SMT; RoHS: Y; RefDes: RefDes; TYPE: TYPE; Value: Value
footprint DBZ0003A_N
footprint SOT-23-3
pins: 1 CATHODE, 2 REF (in), 3 ANODE

## TLP521-1
designator U?
pins: 1 A, 2 K, 15 E, 16 C

## TLV1117
designator U?
pins: 1 IN, 2 OUT, 3 GND, 4 OUT

## TM4C123FH6PM
designator U?
footprint LQFP_64
pins: 1 PB6 (io), 2 VDDA (power), 3 GNDA (power), 4 PB7 (io), 5 PF4 (io), 6 PE3 (io), 7 PE2 (io), 8 PE1 (io), 9 PE0 (io), 10 PD7 (io), 11 VDD (power), 12 GND (power), 13 PC7 (io), 14 PC6 (io), 15 PC5 (io), 16 PC4 (io), 17 PA0_U0Rx (io), 18 PA1_U0Tx (io), 19 PA2_SSI0Clk (io), 20 PA3_SSI0Fss (io), 21 PA4_SSI0Rx (io), 22 PA5_SSI0Tx (io), 23 PA6 (io), 24 PA7 (io), 25 VDDC (power), 26 VDD (power), 27 GND (power), 28 PF0 (io), 29 PF1 (io), 30 PF2 (io), 31 PF3 (io), 32 PG5 (io), 33 PG4 (io), 34 PG3 (io), 35 PG2 (io), 36 PG1 (io), 37 PG0 (io), 38 RST_N (in), 39 GND (power), 40 OSC0 (in), 41 OSC1 (out), 42 VDD (power), 43 PD4 (io), 44 PD5 (io), 45 PB0_USB0ID (io), 46 PB1_USB0VBUS (io), 47 PB2_I2C0SCL (io), 48 PB3_I2C0SDA (io), 49 PC3_TDO_SWO (io), 50 PC2_TDI (io), 51 PC1_TMS_SWDIO (io), 52 PC0_TCK_SWCLK (io), 53 PD6 (io), 54 VDD (power), 55 GND (power), 56 VDDC (power), 57 PB5 (io), 58 PB4 (io), 59 PE4 (io), 60 PE5 (io), 61 PD0 (io), 62 PD1 (io), 63 PD2 (io), 64 PD3 (io)

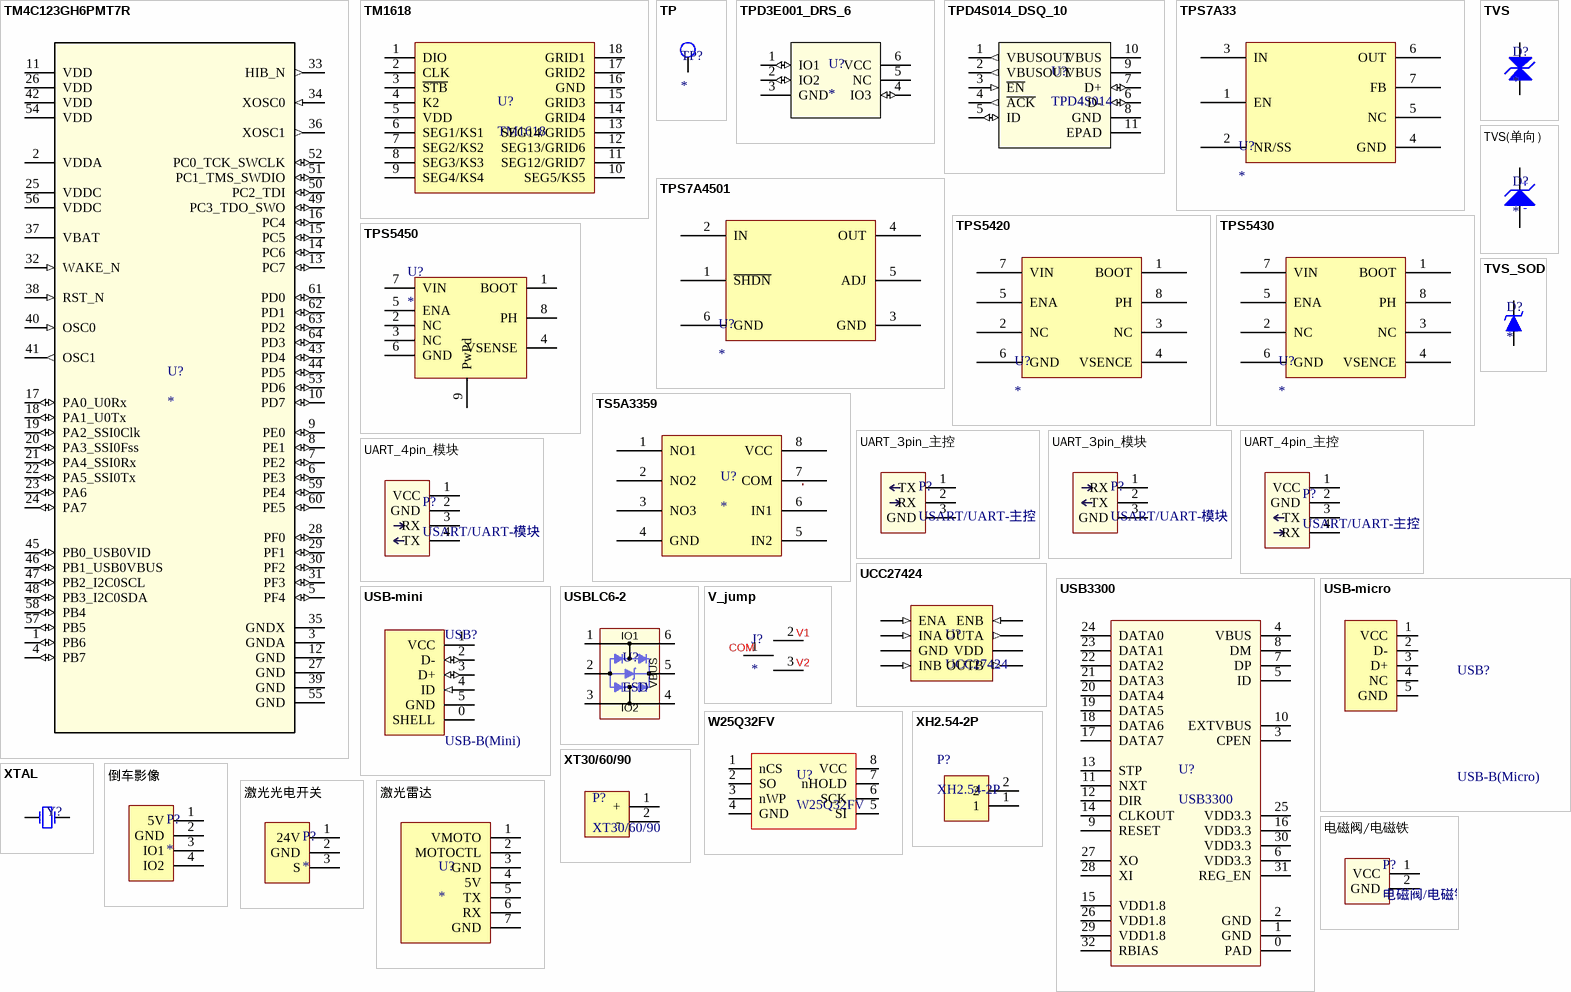
[diagram p13: symbols TM4C123GH6PMT7R to 电磁阀/电磁铁]

## TM4C123GH6PMT7R
designator U?
Imported; PartNumber: TM4C123GH6PMTR; Alternate_PartNumber: TM4C123GH6PMT; Manufacturer: Texas Instruments; CompType: IC; PIN_COUNT: 64; Application_BuildNumber: *; PackageReference: PM0064A; MountType: SMT; RoHS: Y; RefDes: RefDes; TYPE: TYPE; Value: Value
footprint PM0064A_N
footprint LQFP_64
pins: 1 PB6 (io), 2 VDDA (power), 3 GNDA (power), 4 PB7 (io), 5 PF4 (io), 6 PE3 (io), 7 PE2 (io), 8 PE1 (io), 9 PE0 (io), 10 PD7 (io), 11 VDD (power), 12 GND (power), 13 PC7 (io), 14 PC6 (io), 15 PC5 (io), 16 PC4 (io), 17 PA0_U0Rx (io), 18 PA1_U0Tx (io), 19 PA2_SSI0Clk (io), 20 PA3_SSI0Fss (io), 21 PA4_SSI0Rx (io), 22 PA5_SSI0Tx (io), 23 PA6 (io), 24 PA7 (io), 25 VDDC (power), 26 VDD (power), 27 GND (power), 28 PF0 (io), 29 PF1 (io), 30 PF2 (io), 31 PF3 (io), 32 WAKE_N (in), 33 HIB_N (out), 34 XOSC0 (in), 35 GNDX (power), 36 XOSC1 (out), 37 VBAT (power), 38 RST_N (in), 39 GND (power), 40 OSC0 (in), 41 OSC1 (out), 42 VDD (power), 43 PD4 (io), 44 PD5 (io), 45 PB0_USB0VID (io), 46 PB1_USB0VBUS (io), 47 PB2_I2C0SCL (io), 48 PB3_I2C0SDA (io), 49 PC3_TDO_SWO (io), 50 PC2_TDI (io), 51 PC1_TMS_SWDIO (io), 52 PC0_TCK_SWCLK (io), 53 PD6 (io), 54 VDD (power), 55 GND (power), 56 VDDC (power), 57 PB5 (io), 58 PB4 (io), 59 PE4 (io), 60 PE5 (io), 61 PD0 (io), 62 PD1 (io), 63 PD2 (io), 64 PD3 (io)

## TM1618
designator U?
7段x5位数码管驱动芯片，串行接口，5位按键
pins: 1 DIO, 2 CLK, 3 ~{STB}, 4 K2, 5 VDD, 6 SEG1/KS1, 7 SEG2/KS2, 8 SEG3/KS3, 9 SEG4/KS4, 10 SEG5/KS5, 11 SEG12/GRID7, 12 SEG13/GRID6, 13 SEG14/GRID5, 14 GRID4, 15 GRID3, 16 GND, 17 GRID2, 18 GRID1

## TP
designator TP?
Test Point
footprint TP_VIA
footprint TP_SMT
pins: 1 TP (oc)

## TPD3E001_DRS_6
designator U?
Imported; Manufacturer_Part_Number: tpd3e001_drs_6; GENERIC_PART_NUMBER: TPD3E001; Vendor: Texas Instruments; PACKAGE_DESIGNATOR: DRS; PIN_COUNT: 6; FAMILY_NAME: ESD Solution; INDUSTRY_STD_PKG_TYPE: SON; Manufacturer: Texas Instruments; Datasheet_URL: http://www.ti.com/lit/gpn/TPD3E001; Value: Value; Type: Type; RefDes: RefDes
footprint DRS6-
footprint dry6
pins: 1 IO1 (io), 2 IO2 (io), 3 GND (power), 4 IO3 (io), 5 NC, 6 VCC (power)

## TPD4S014_DSQ_10
designator U?, comment TPD4S014
Imported; Manufacturer_Part_Number: tpd4s014_dsq_10; Vendor: Texas Instruments; PACKAGE_DESIGNATOR: DSQ; PIN_COUNT: 10; FAMILY_NAME: ESD Solution; INDUSTRY_STD_PKG_TYPE: SON; GENERIC_PART_NUMBER: TPD4S014; Manufacturer: Texas Instruments; Datasheet_URL: http://www.ti.com/lit/gpn/TPD4S014; Value: Value; Type: Type; RefDes: RefDes
footprint DSQ10_1P5X0P9
pins: 1 VBUSOUT (out), 2 VBUSOUT (out), 3 ~{EN} (in), 4 ~{ACK} (out), 5 ID (io), 6 D- (io), 7 D+ (io), 8 GND (power), 9 VBUS (power), 10 VBUS (power), 11 EPAD

## TPS7A33
designator U?
footprint TO220_7p
pins: 1 EN, 2 NR/SS, 3 IN, 4 GND, 5 NC, 6 OUT, 7 FB

## TPS7A4501
designator U?
footprint SOT223_6 (SOT223, 6-Leads, Body 6.50x7.06mm (avg), Pitch 1.27mm, IPC Medium Density)
pins: 1 ~{SHDN}, 2 IN, 3 GND, 4 OUT, 5 ADJ, 6 GND

## TPS5420
designator U?
footprint D8_NoThermal (SOIC, 8-Leads, Body 4.90x3.90mm, Pitch 1.27mm, IPC Medium Density)
pins: 1 BOOT, 2 NC, 3 NC, 4 VSENCE, 5 ENA, 6 GND, 7 VIN, 8 PH

## TPS5430
designator U?
footprint D8_Thermal (SOIC, 8-Leads, Body 4.90x3.90mm, Pitch 1.27mm, Thermal Pad 3.10x2.60mm, IPC Medium Density)
pins: 1 BOOT, 2 NC, 3 NC, 4 VSENCE, 5 ENA, 6 GND, 7 VIN, 8 PH, 9 Thermal hidden to GND

## TPS5450
designator U?
footprint SOIC8E (SOIC, 8-Leads, Body 4.90x3.90mm, Pitch 1.27mm, Thermal Pad 3.45.2x2.00.2mm, IPC Medium Density)
pins: 1 BOOT, 2 NC, 3 NC, 4 VSENSE, 5 ENA, 6 GND, 7 VIN, 8 PH, 9 PwPd